# Altium schematic symbol library kalios.SchLib: 578 symbols (part 2 of 4)
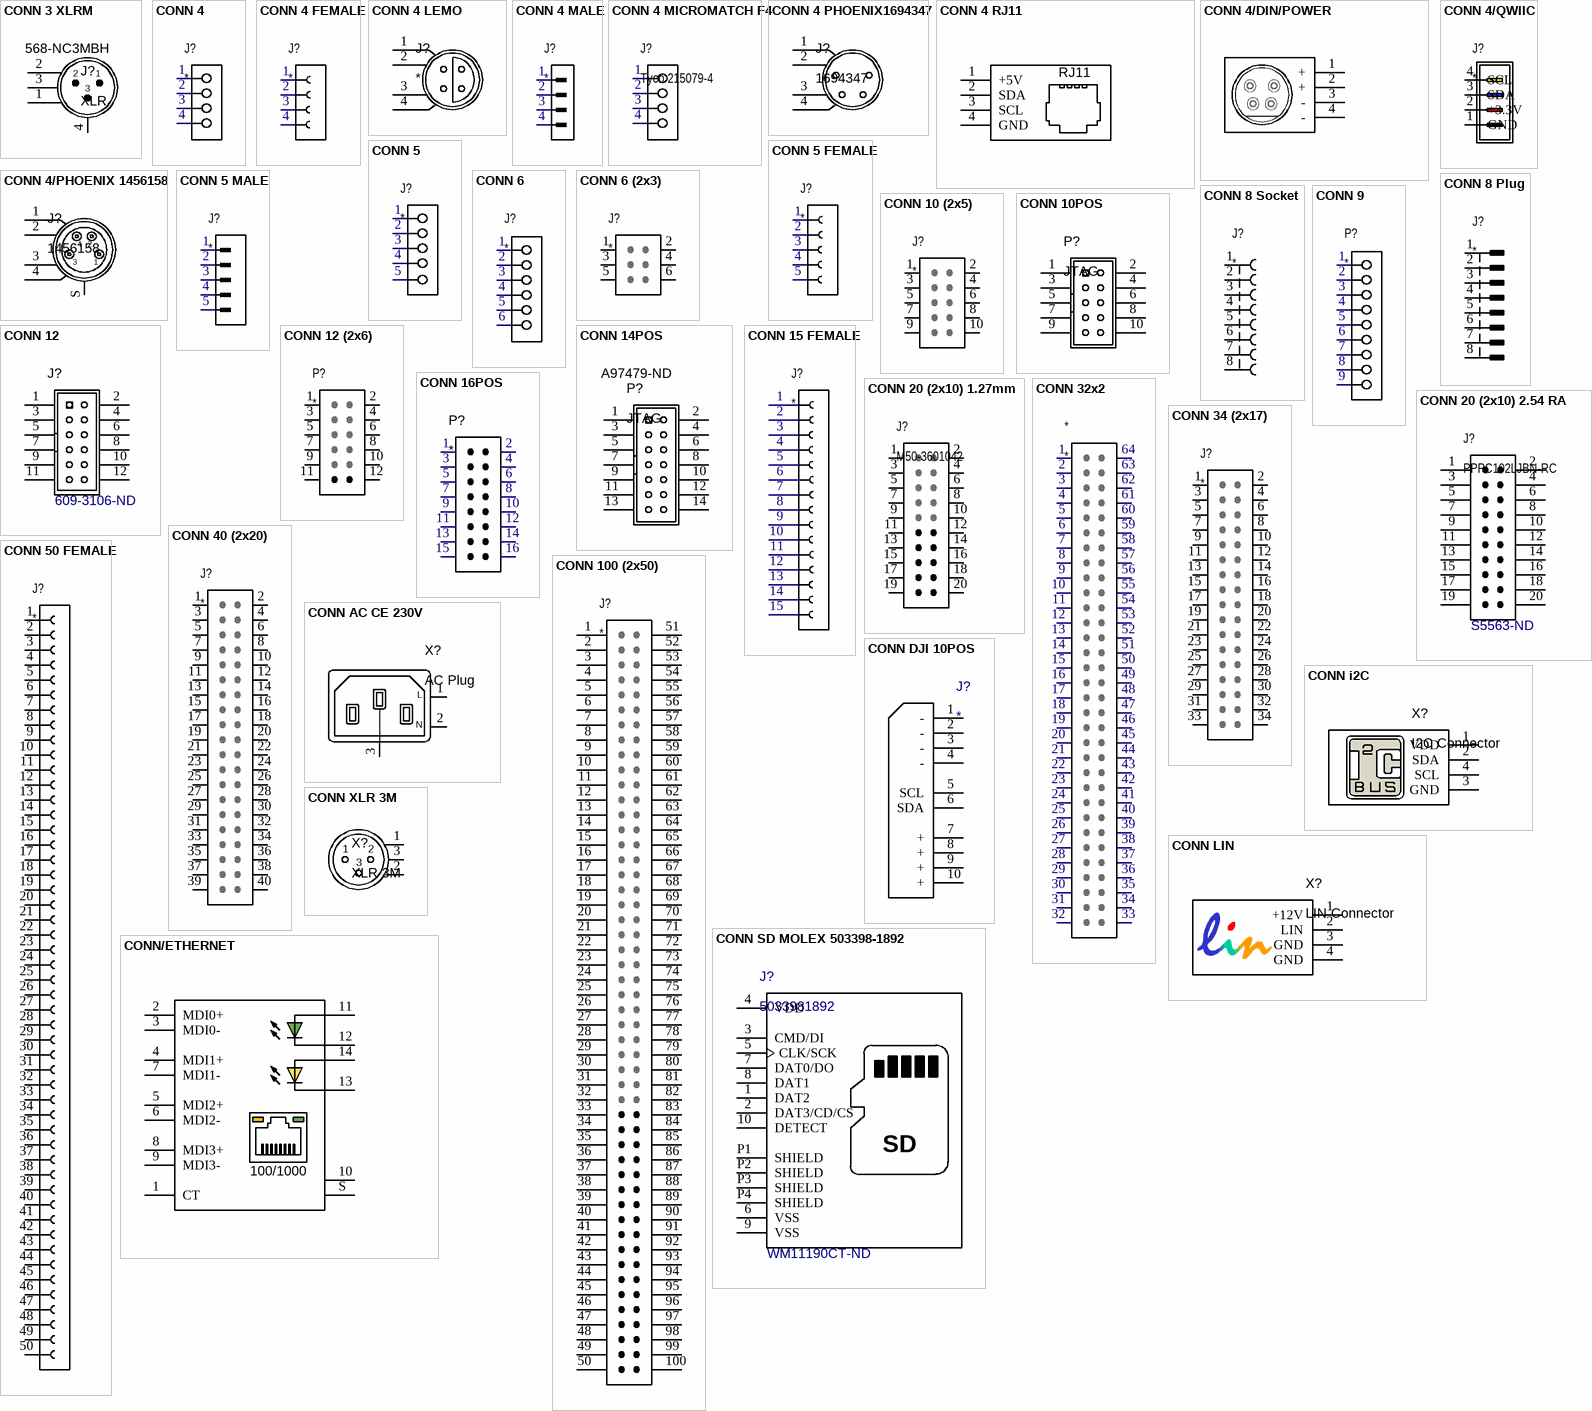
[diagram p25: symbols CONN 3 XLRM to CONN/ETHERNET]

## CONN 50 FEMALE
designator J?
pins: 1, 2, 3, 4, 5, 6, 7, 8, 9, 10, 11, 12, 13, 14, 15, 16, 17, 18, 19, 20, 21, 22, 23, 24, 25, 26, 27, 28, 29, 30, 31, 32, 33, 34, 35, 36, 37, 38, 39, 40, 41, 42, 43, 44, 45, 46, 47, 48, 49, 50

## CONN 100 (2x50)
designator J?
pins: 1, 2, 3, 4, 5, 6, 7, 8, 9, 10, 11, 12, 13, 14, 15, 16, 17, 18, 19, 20, 21, 22, 23, 24, 25, 26, 27, 28, 29, 30, 31, 32, 33, 34, 35, 36, 37, 38, 39, 40, 41, 42, 43, 44, 45, 46, 47, 48, 49, 50, 51, 52, 53, 54, 55, 56, 57, 58, 59, 60, 61, 62, 63, 64, 65, 66, 67, 68, 69, 70, 71, 72, 73, 74, 75, 76, 77, 78, 79, 80, 81, 82, 83, 84, 85, 86, 87, 88, 89, 90, 91, 92, 93, 94, 95, 96, 97, 98, 99, 100
1 alternate drawing of the same symbol

## CONN AC CE 230V
designator X?, comment AC Plug
pins: 1 L, 2 N, 3 GND

## CONN DJI 10POS
designator J?
pins: 1 -, 2 -, 3 -, 4 -, 5 SCL, 6 SDA, 7 +, 8 +, 9 +, 10 +

## CONN i2C
designator X?, comment I2C Connector
footprint TYCO/215079-4
pins: 1 VDD, 2 SDA, 3 GND, 4 SCL

## CONN LIN
designator X?, comment LIN Connector
footprint TYCO/5520250-3
pins: 1 +12V, 2 LIN, 3 GND, 4 GND

## CONN SD MOLEX 503398-1892
designator J?, comment 5033981892  Supplier Part Number 1: WM11190CT-ND
Supplier 1: Digi-Key
footprint MOLEX_503398-1892
pins: 1 DAT2, 2 DAT3/CD/CS, 3 CMD/DI, 4 VDD (power), 5 CLK/SCK, 6 VSS (power), 7 DAT0/DO, 8 DAT1, 9 VSS (power), 10 DETECT, P1 SHIELD, P2 SHIELD, P3 SHIELD, P4 SHIELD
text: SD

## CONN XLR 3M
designator X?, comment XLR 3M
footprint XLR
pins: 1, 2, 3

## CONN/ETHERNET
designator J?
Supplier 1: Digi-Key
footprint TE/1-406541-1
pins: 1 CT, 2 MDI0+, 3 MDI0-, 4 MDI1+, 5 MDI2+, 6 MDI2-, 7 MDI1-, 8 MDI3+, 9 MDI3-, 10 CHS GND, 11 LED_GREEN1, 12 LED_GREEN2, 13 LED_YELLOW2, 14 LED_YELLOW1, S
text: 100/1000

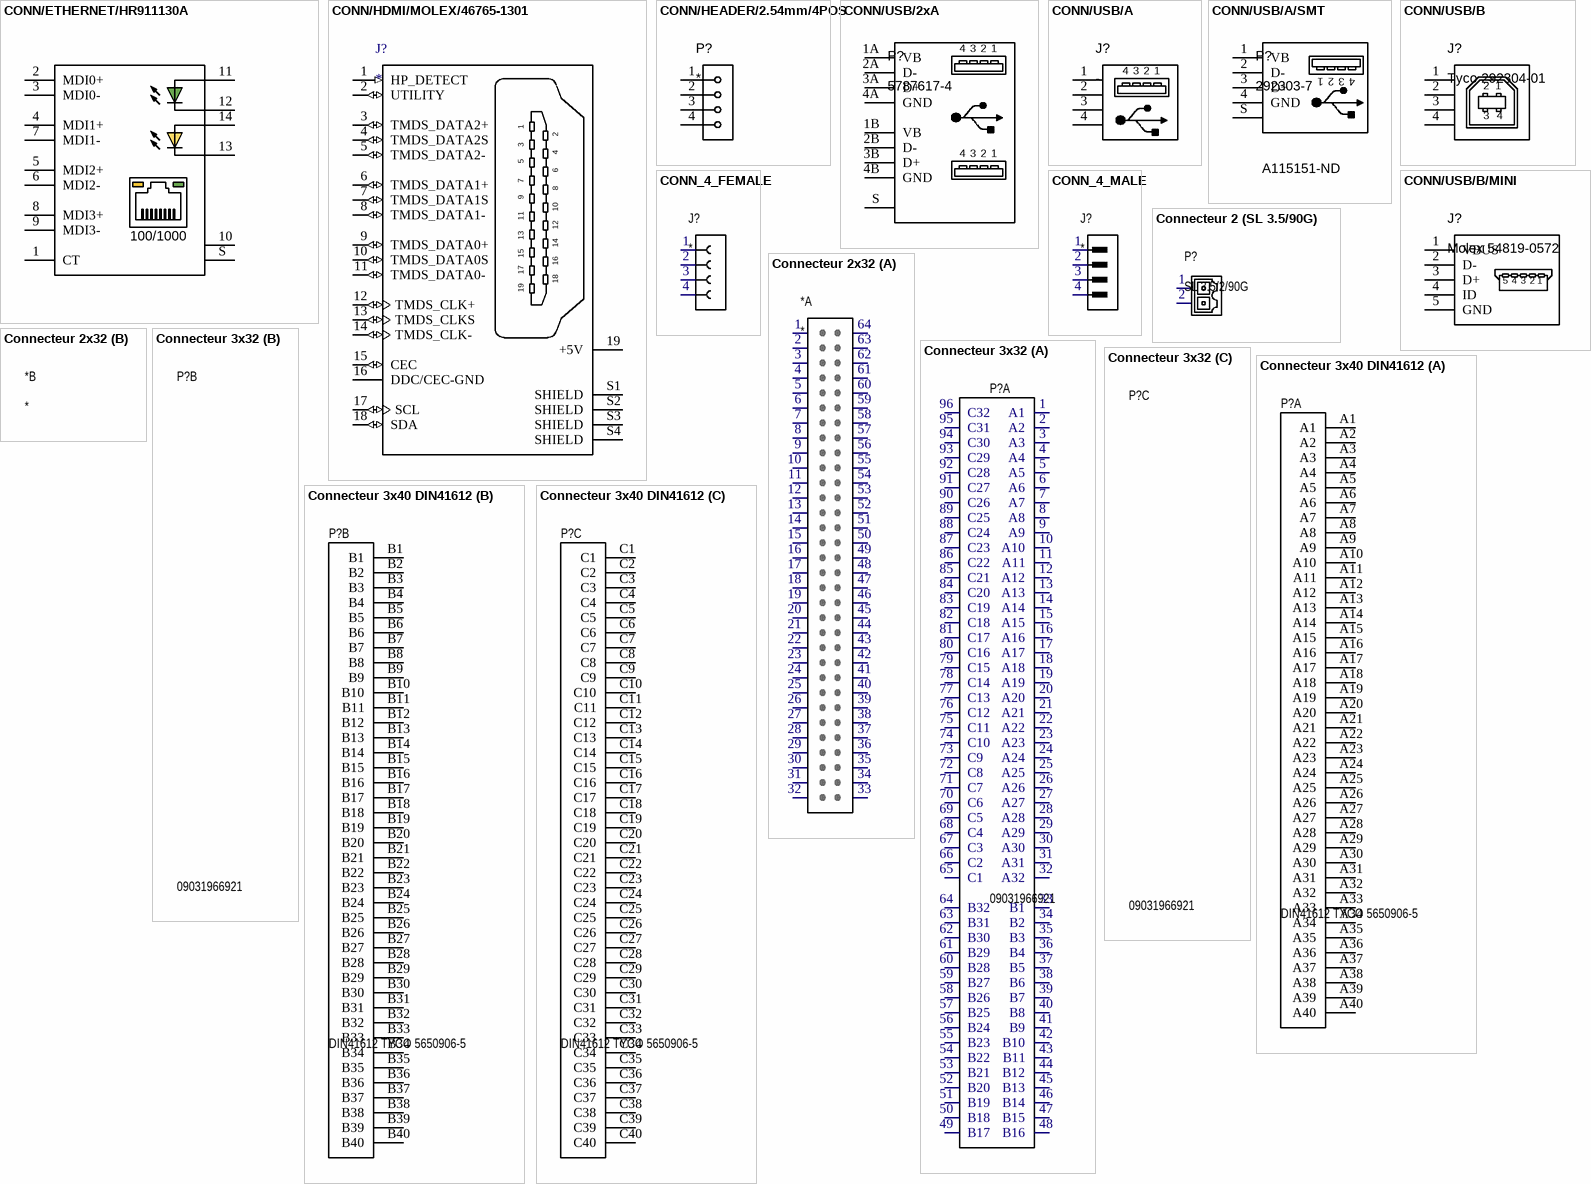
[diagram p6: symbols CONN/ETHERNET/HR911130A to Connecteur 3x40 DIN41612]

## CONN/ETHERNET/HR911130A
designator J?, comment HR911130A
footprint CONN/ETHERNET/HR911130A
pins: 1 CT, 2 MDI0+, 3 MDI0-, 4 MDI1+, 5 MDI2+, 6 MDI2-, 7 MDI1-, 8 MDI3+, 9 MDI3-, 10 CHS GND, 11 LED_GREEN1, 12 LED_GREEN2, 13 LED_YELLOW2, 14 LED_YELLOW1, S
text: 100/1000

## CONN/HDMI/MOLEX/46765-1301
designator J?
Conn Micro HDMI M 19 POS 0.4mm Solder RA SMD 19 Terminal 1 Port Embossed T/R; MP: 46765-1301; Package: None; Price: None; Value: *; Availability: Unavailable
footprint MOLEX_46765-1301
pins: 1 HP_DETECT (in), 2 UTILITY (io), 3 TMDS_DATA2+ (io), 4 TMDS_DATA2S (io), 5 TMDS_DATA2- (io), 6 TMDS_DATA1+ (io), 7 TMDS_DATA1S (io), 8 TMDS_DATA1- (io), 9 TMDS_DATA0+ (io), 10 TMDS_DATA0S (io), 11 TMDS_DATA0- (io), 12 TMDS_CLK+ (io), 13 TMDS_CLKS (io), 14 TMDS_CLK- (io), 15 CEC (io), 16 DDC/CEC-GND, 17 SCL (io), 18 SDA (io), 19 +5V (power), S1 SHIELD, S2 SHIELD, S3 SHIELD, S4 SHIELD

## CONN/HEADER/2.54mm/4POS
designator P?
footprint CONN/HEADER/2.54mm/4POS
pins: 1, 2, 3, 4

## CONN/USB/2xA
designator P?, comment 5787617-4
CONN RCPT USB 8POS STACK T/H
footprint TE/5787617-4 (USB DUAL)
pins: 1A VB, 1B VB, 2A D-, 2B D-, 3A D+, 3B D+, 4A GND, 4B GND, S GND
text: 4; 3; 2; 1

## CONN/USB/A
designator J?, comment -
Connector USB Type A
footprint TYCO/292304-01 (Footprint not found)
pins: 1, 2, 3, 4

## CONN/USB/A/SMT
designator P?, comment 292303-7  Supplier Part Number 1: A115151-ND
CONN RCPT USB TYPE A SMT R/A; Supplier 1: Digi-Key
footprint TE/292303-7 (CONN RCPT USB TYPE A SMT R/A)
pins: 1 VB, 2 D-, 3 D+, 4 GND, S GND
1 alternate drawing of the same symbol

## CONN/USB/B
designator J?, comment Tyco 292304-01
Connector USB Type B
footprint TYCO/292304-01 (Footprint not found)
pins: 1, 2, 3, 4

## CONN/USB/B/MINI
designator J?, comment Molex 54819-0572
CONN RECEPT MINIUSB R/A 5POS SMD
footprint MOLEX/54819-0572 (CONN RECEPT MINIUSB R/A 5POS SMD)
pins: 1 VBUS, 2 D-, 3 D+, 4 ID, 5 GND

## CONN_4_FEMALE
designator J?
pins: 1, 2, 3, 4

## CONN_4_MALE
designator J?
pins: 1, 2, 3, 4

## Connecteur 2 (SL 3.5/90G)
designator P?, comment SL 3.5/2/90G
footprint WEIDMULLER/SL_3.5/2/90G
pins: 1, 2

## Connecteur 2x32
designator *
part A pins: 1, 2, 3, 4, 5, 6, 7, 8, 9, 10, 11, 12, 13, 14, 15, 16, 17, 18, 19, 20, 21, 22, 23, 24, 25, 26, 27, 28, 29, 30, 31, 32, 33, 34, 35, 36, 37, 38, 39, 40, 41, 42, 43, 44, 45, 46, 47, 48, 49, 50, 51, 52, 53, 54, 55, 56, 57, 58, 59, 60, 61, 62, 63, 64
1 alternate drawing of the same symbol

## Connecteur 3x32
designator P?, comment 09031966921
part A pins: 1 A1, 2 A2, 3 A3, 4 A4, 5 A5, 6 A6, 7 A7, 8 A8, 9 A9, 10 A10, 11 A11, 12 A12, 13 A13, 14 A14, 15 A15, 16 A16, 17 A17, 18 A18, 19 A19, 20 A20, 21 A21, 22 A22, 23 A23, 24 A24, 25 A25, 26 A26, 27 A27, 28 A28, 29 A29, 30 A30, 31 A31, 32 A32, 33 B1, 34 B2, 35 B3, 36 B4, 37 B5, 38 B6, 39 B7, 40 B8, 41 B9, 42 B10, 43 B11, 44 B12, 45 B13, 46 B14, 47 B15, 48 B16, 49 B17, 50 B18, 51 B19, 52 B20, 53 B21, 54 B22, 55 B23, 56 B24, 57 B25, 58 B26, 59 B27, 60 B28, 61 B29, 62 B30, 63 B31, 64 B32, 65 C1, 66 C2, 67 C3, 68 C4, 69 C5, 70 C6, 71 C7, 72 C8, 73 C9, 74 C10, 75 C11, 76 C12, 77 C13, 78 C14, 79 C15, 80 C16, 81 C17, 82 C18, 83 C19, 84 C20, 85 C21, 86 C22, 87 C23, 88 C24, 89 C25, 90 C26, 91 C27, 92 C28, 93 C29, 94 C30, 95 C31, 96 C32
1 alternate drawing of the same symbol

## Connecteur 3x40 DIN41612
designator P?, comment DIN41612 TYCO 5650906-5
footprint DIN41612/TYCO/5650906-5 (Footprint not found)
part A pins: A1, A2, A3, A4, A5, A6, A7, A8, A9, A10, A11, A12, A13, A14, A15, A16, A17, A18, A19, A20, A21, A22, A23, A24, A25, A26, A27, A28, A29, A30, A31, A32, A33, A34, A35, A36, A37, A38, A39, A40
part B pins: B1, B2, B3, B4, B5, B6, B7, B8, B9, B10, B11, B12, B13, B14, B15, B16, B17, B18, B19, B20, B21, B22, B23, B24, B25, B26, B27, B28, B29, B30, B31, B32, B33, B34, B35, B36, B37, B38, B39, B40
part C pins: C1, C2, C3, C4, C5, C6, C7, C8, C9, C10, C11, C12, C13, C14, C15, C16, C17, C18, C19, C20, C21, C22, C23, C24, C25, C26, C27, C28, C29, C30, C31, C32, C33, C34, C35, C36, C37, C38, C39, C40

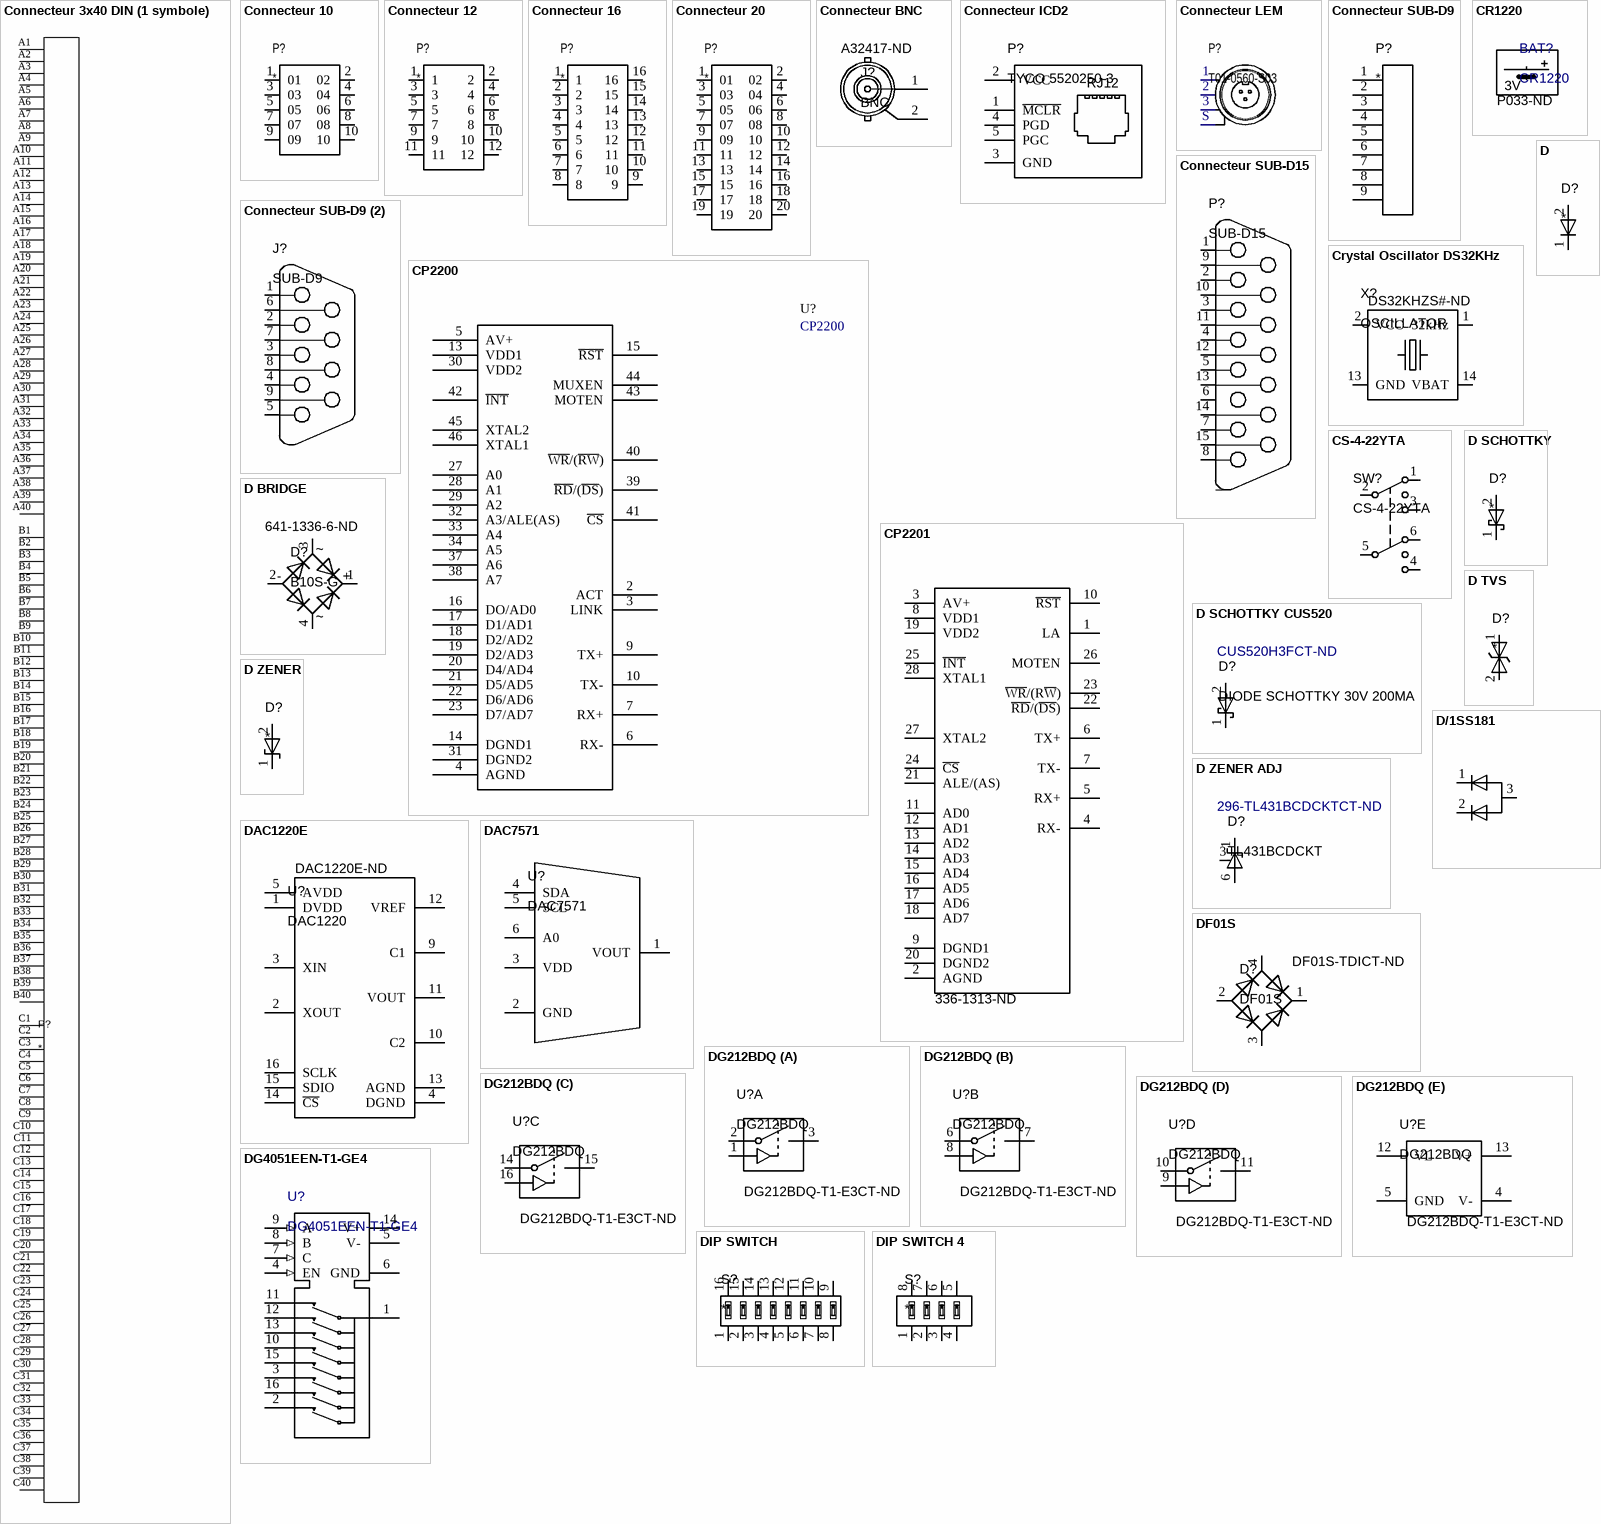
[diagram p7: symbols Connecteur 3x40 DIN (1 symbole) to DIP SWITCH 4]

## Connecteur 3x40 DIN (1 symbole)
designator P?
footprint DIN41612/TYCO/5650906-5
pins: A1, A2, A3, A4, A5, A6, A7, A8, A9, A10, A11, A12, A13, A14, A15, A16, A17, A18, A19, A20, A21, A22, A23, A24, A25, A26, A27, A28, A29, A30, A31, A32, A33, A34, A35, A36, A37, A38, A39, A40, B1, B2, B3, B4, B5, B6, B7, B8, B9, B10, B11, B12, B13, B14, B15, B16, B17, B18, B19, B20, B21, B22, B23, B24, B25, B26, B27, B28, B29, B30, B31, B32, B33, B34, B35, B36, B37, B38, B39, B40, C1, C2, C3, C4, C5, C6, C7, C8, C9, C10, C11, C12, C13, C14, C15, C16, C17, C18, C19, C20, C21, C22, C23, C24, C25, C26, C27, C28, C29, C30, C31, C32, C33, C34, C35, C36, C37, C38, C39, C40

## Connecteur 10
designator P?
pins: 1 01, 2 02, 3 03, 4 04, 5 05, 6 06, 7 07, 8 08, 9 09, 10

## Connecteur 12
designator P?
pins: 1, 2, 3, 4, 5, 6, 7, 8, 9, 10, 11, 12

## Connecteur 16
designator P?
pins: 1, 2, 3, 4, 5, 6, 7, 8, 9, 10, 11, 12, 13, 14, 15, 16

## Connecteur 20
designator P?
pins: 1 01, 2 02, 3 03, 4 04, 5 05, 6 06, 7 07, 8 08, 9 09, 10, 11, 12, 13, 14, 15, 16, 17, 18, 19, 20

## Connecteur BNC
designator J?, comment BNC  Supplier Part Number 1: A32417-ND
Supplier 1: Digi-Key
footprint TYCO/5413515-8
pins: 1, 2

## Connecteur ICD2
designator P?, comment TYCO 5520250-3
Connector ICD2
footprint TYCO/5520250-3
pins: 1 ~{MCLR}, 2 VCC, 3 GND, 4 PGD, 5 PGC
text: RJ12

## Connecteur LEM
designator P?, comment T01-0560-S03
Supplier 1: Farnell
footprint Connector_LEM
pins: 1, 2, 3, S SHIELD

## Connecteur SUB-D9
designator P?
pins: 1, 2, 3, 4, 5, 6, 7, 8, 9

## Connecteur SUB-D9 (2)
designator J?, comment SUB-D9
pins: 1, 2, 3, 4, 5, 6, 7, 8, 9

## Connecteur SUB-D15
designator P?, comment SUB-D15
pins: 1, 2, 3, 4, 5, 6, 7, 8, 9, 10, 11, 12, 13, 14, 15

## CP2200
designator U?
pins: 2 ACT, 3 LINK, 4 AGND, 5 AV+, 6 RX-, 7 RX+, 9 TX+, 10 TX-, 13 VDD1, 14 DGND1, 15 ~{RST}, 16 DO/AD0, 17 D1/AD1, 18 D2/AD2, 19 D2/AD3, 20 D4/AD4, 21 D5/AD5, 22 D6/AD6, 23 D7/AD7, 27 A0, 28 A1, 29 A2, 30 VDD2, 31 DGND2, 32 A3/ALE(AS), 33 A4, 34 A5, 37 A6, 38 A7, 39 ~{RD}/(~{DS}), 40 ~{WR}/(~{RW}), 41 ~{CS}, 42 ~{INT}, 43 MOTEN, 44 MUXEN, 45 XTAL2, 46 XTAL1

## CP2201
designator U?, comment CP2201-GM  Supplier Part Number 2: 336-1313-ND
IC ETH CTRLR SNGL-CHIP 28QFN; Supplier 1: Digi-Key; Supplier 2: Digi-Key
pins: 1 LA, 2 AGND, 3 AV+, 4 RX-, 5 RX+, 6 TX+, 7 TX-, 8 VDD1, 9 DGND1, 10 ~{RST}, 11 AD0, 12 AD1, 13 AD2, 14 AD3, 15 AD4, 16 AD5, 17 AD6, 18 AD7, 19 VDD2, 20 DGND2, 21 ALE/(AS), 22 ~{RD}/(~{DS}), 23 ~{WR}/(R~{W}), 24 ~{CS}, 25 ~{INT}, 26 MOTEN, 27 XTAL2, 28 XTAL1

## CR1220
designator BAT?  Supplier Part Number 1: P033-ND  (mechanical)
Lithum battery (LiCB) / 3V / 40mAh / 12.5 mm / 0.77 g; Supplier 1: Digi-Key
text: 3V

## Crystal Oscillator DS32KHz
designator X?, comment OSCILLATOR  Supplier Part Number 1: DS32KHZS#-ND
Supplier 1: Digi-Key
pins: 1 32kHz, 2 VCC, 13 GND, 14 VBAT

## CS-4-22YTA
designator SW?
Dip Switch DPDT 2 Position Surface Mount Rotary for Tool Actuator 100mA 16VDC; Supplier 1: Digi-Key; Supplier Part Number 1: 563-1039-1-ND
pins: 1 2A, 2 CA, 3 1A, 4 2B, 5 CB, 6 1B

## D
designator D?
pins: 1 K, 2 A

## D BRIDGE
designator D?, comment B10S-G  Supplier Part Number 1: 641-1336-6-ND
COMCHIP/B10S-G; Supplier 1: Digi-Key
footprint COMCHIP/B10S-G
pins: 1, 2, 3, 4
text: ~; -; +

## D SCHOTTKY
designator D?
pins: 1 K, 2 A

## D SCHOTTKY CUS520
designator D?, comment DIODE SCHOTTKY 30V 200MA  Supplier Part Number 1: CUS520H3FCT-ND
Diode Schottky 30V 200mA Surface Mount USC; Supplier 1: Digi-Key
footprint SOD323
pins: 1 CATHODE, 2 ANODE

## D TVS
designator D?
pins: 1, 2

## D ZENER
designator D?
pins: 1 K, 2 A

## D ZENER ADJ
designator D?, comment TL431BCDCKT  Supplier Part Number 1: 296-TL431BCDCKTCT-ND
IC VREF SHUNT ADJ 0.5% SC70-6; Supplier 1: Digi-Key; Value: TL431BCDCKT
footprint SC70-6 (SOT363, 6-Leads, Body 2x1.3mm, Pitch 0.65mm, Lead Span 2.1mm, IPC Low Density)
pins: 1 Cathode, 3 Ref, 6 Anode

## D/1SS181
designator D?, comment 1SS181
DIODE ARRAY 80V 100MA SC59; Supplier 1: Digi-Key
footprint SC59 (Footprint not found)
pins: 1, 2, 3

## DAC1220E
designator U?, comment DAC1220  Supplier Part Number 1: DAC1220E-ND
20-Bit, Low-Power igital-to-Analog Converter; Supplier 1: Digi-Key
footprint TI/DBQ016 (SSOP; 16 Leads; Body Width 3.9 mm; Pitch 0.635 mm)
pins: 1 DVDD, 2 XOUT, 3 XIN, 4 DGND, 5 AVDD, 9 C1, 10 C2, 11 VOUT, 12 VREF, 13 AGND, 14 ~{CS}, 15 SDIO, 16 SCLK

## DAC7571
designator U?
footprint SOT23-6 (Footprint not found)
pins: 1 VOUT, 2 GND, 3 VDD, 4 SDA, 5 SCL, 6 A0

## DF01S
designator D?  Supplier Part Number 1: DF01S-TDICT-ND
IC RECT BRIDGE 100V 1.5A 4-SMD; Supplier 1: Digi-Key
footprint DF01S
pins: 1, 2, 3, 4

## DG212BDQ
designator U?  Supplier Part Number 1: DG212BDQ-T1-E3CT-ND
Improved Quad CMOS Analog Switches; Supplier 1: Digi-Key
footprint PW016 (Shrink Small Outline; 16 Leads; Body Width 4.4 mm; Pitch 0.65 mm)
part A pins: 1 IN1, 2, 3
part B pins: 6, 7, 8 IN2
part C pins: 14, 15, 16 IN3
part D pins: 9 IN4, 10, 11
part E pins: 4 V-, 5 GND, 12 VL, 13 V+

## DG4051EEN-T1-GE4
designator U?
1 Circuit IC Switch 8:1 78Ohm 16-miniQFN (1.8x2.6); Supplier 1: Digi-Key; Supplier Part Number 1: DG4051EEN-T1-GE4CT-ND
pins: 1 X, 2 X7, 3 X5, 4 EN (in), 5 V- (power), 6 GND (power), 7 C (in), 8 B (in), 9 A (in), 10 X3, 11 X0, 12 X1, 13 X2, 14 V+ (power), 15 X4, 16 X6
1 alternate drawing of the same symbol

## DIP SWITCH
designator S?
pins: 1, 2, 3, 4, 5, 6, 7, 8, 9, 10, 11, 12, 13, 14, 15, 16

## DIP SWITCH 4
designator S?
pins: 1, 2, 3, 4, 5, 6, 7, 8

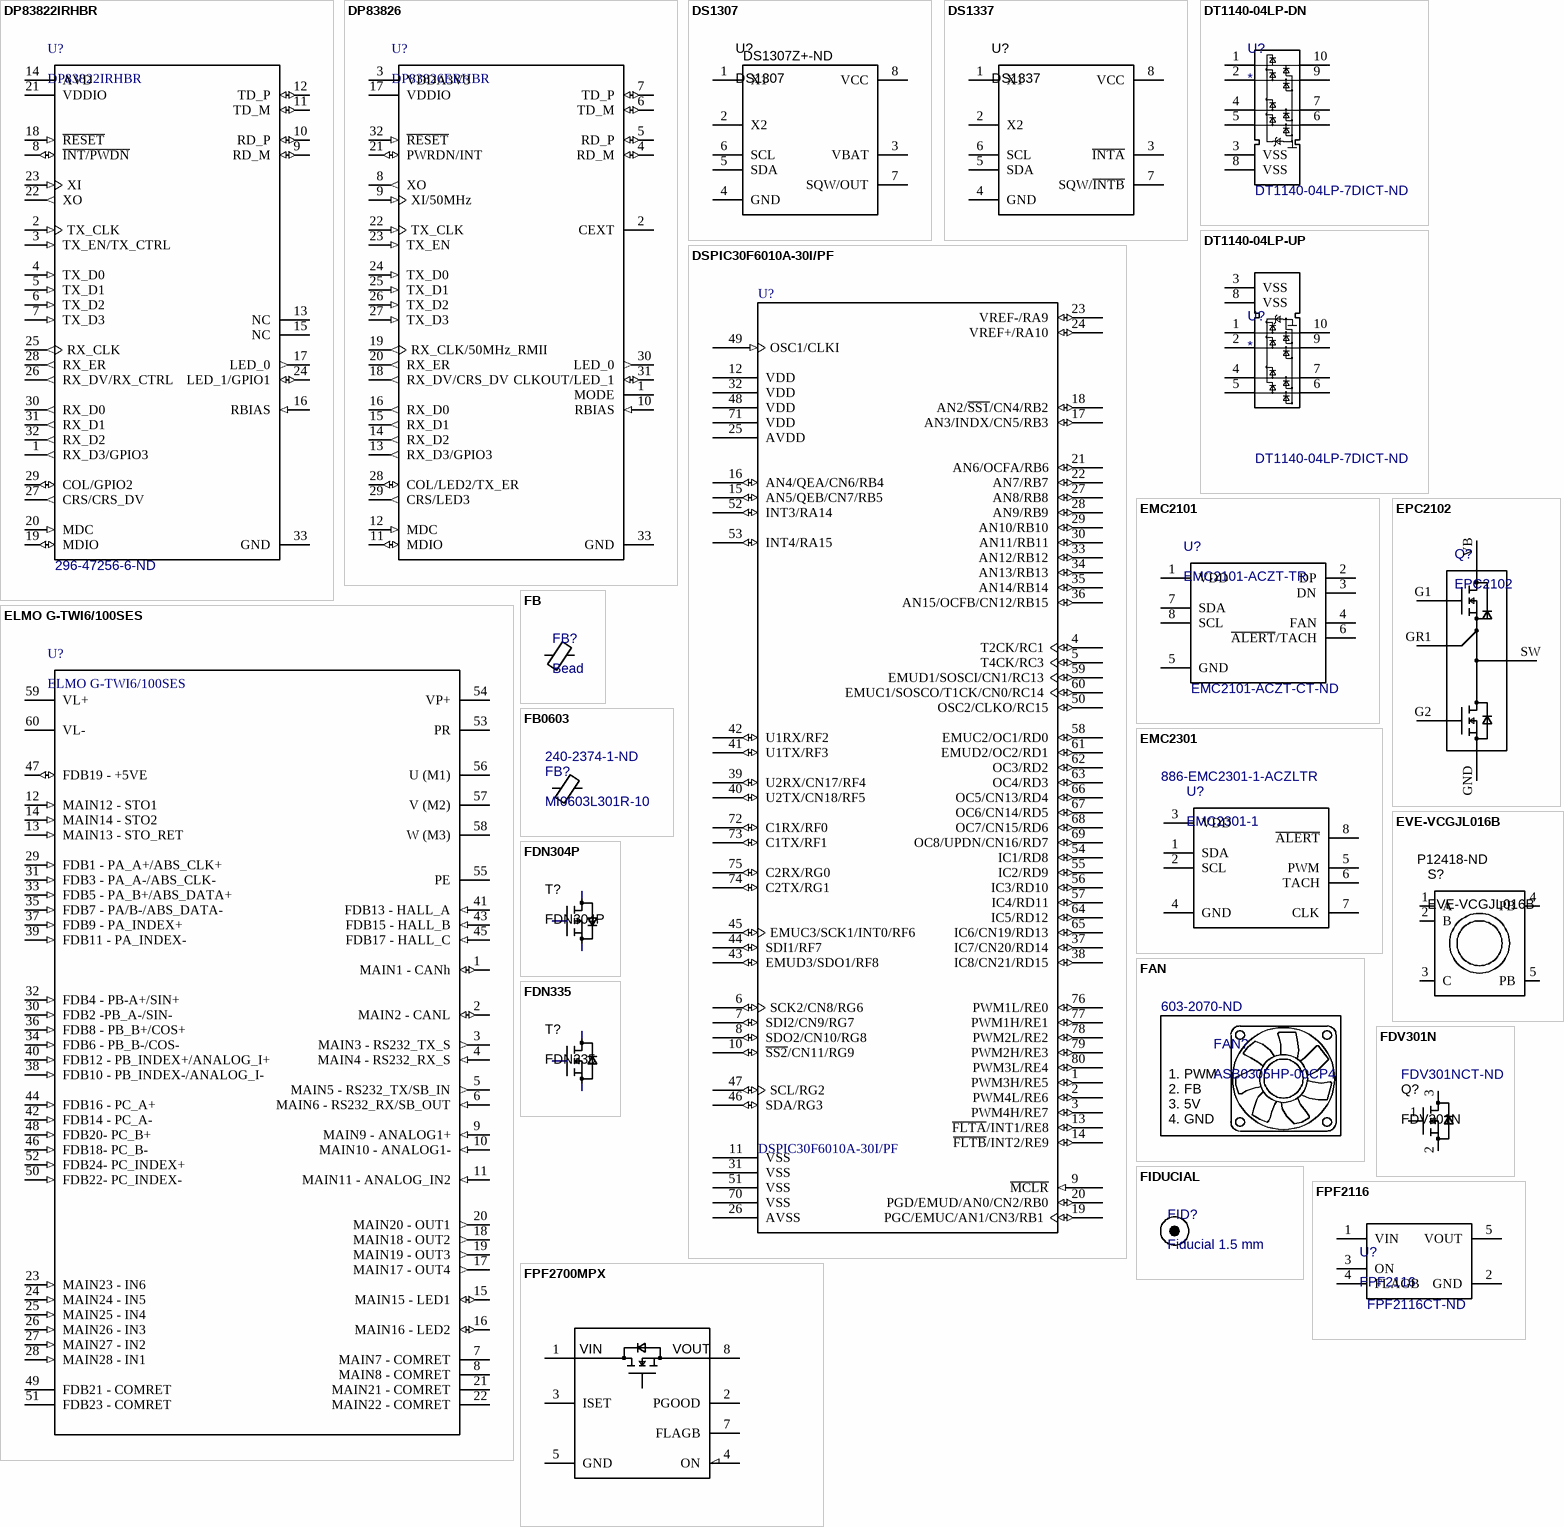
[diagram p8: symbols DP83822IRHBR to FPF2700MPX]

## DP83822IRHBR
designator U?  Supplier Part Number 1: 296-47256-6-ND
Ethernet Interface 32-VQFN (5x5); Price: None; Package: None; Availability: Unavailable; MP: DP83822IRHBR; Value: *; Supplier 1: Digi-Key
footprint IC_DP83822IRHBR
pins: 1 RX_D3/GPIO3 (out), 2 TX_CLK (in), 3 TX_EN/TX_CTRL (in), 4 TX_D0 (in), 5 TX_D1 (in), 6 TX_D2 (in), 7 TX_D3 (in), 8 ~{INT/PWDN} (io), 9 RD_M (io), 10 RD_P (io), 11 TD_M (io), 12 TD_P (io), 13 NC, 14 AVD (power), 15 NC, 16 RBIAS (in), 17 LED_0 (out), 18 ~{RESET} (in), 19 MDIO (io), 20 MDC (in), 21 VDDIO (power), 22 XO (out), 23 XI (in), 24 LED_1/GPIO1 (io), 25 RX_CLK (out), 26 RX_DV/RX_CTRL (out), 27 CRS/CRS_DV (out), 28 RX_ER (out), 29 COL/GPIO2 (io), 30 RX_D0 (out), 31 RX_D1 (out), 32 RX_D2 (out), 33 GND (power)

## DP83826
designator U?, comment DP83826ERHBR
Ethernet ICs Low latency 10/100-Mbps PHY with MII interface and enhanced mode 32-VQFN -40 to 105; MP: DP83822IRHBR; Price: None; Package: None; Availability: Unavailable; Value: *; Supplier 1: Mouser; Supplier Part Number 1: 595-DP83826ERHBR
footprint IC_DP83822IRHBR
pins: 1 MODE, 2 CEXT, 3 VDDA3V3 (power), 4 RD_M (io), 5 RD_P (io), 6 TD_M (io), 7 TD_P (io), 8 XO (out), 9 XI/50MHz (in), 10 RBIAS (in), 11 MDIO (io), 12 MDC (in), 13 RX_D3/GPIO3 (out), 14 RX_D2 (out), 15 RX_D1 (out), 16 RX_D0 (out), 17 VDDIO (power), 18 RX_DV/CRS_DV (out), 19 RX_CLK/50MHz_RMII (out), 20 RX_ER (out), 21 PWRDN/INT (io), 22 TX_CLK (in), 23 TX_EN (in), 24 TX_D0 (in), 25 TX_D1 (in), 26 TX_D2 (in), 27 TX_D3 (in), 28 COL/LED2/TX_ER (io), 29 CRS/LED3 (out), 30 LED_0 (out), 31 CLKOUT/LED_1 (io), 32 ~{RESET} (in), 33 GND (power)

## DS1307
designator U?  Supplier Part Number 1: DS1307Z+-ND
RTC; Supplier 1: Digi-Key
footprint SOIC8 (8-Pin Small Outline Integrated Circuit 1.27 mm Pitch, IPC Low Density)
pins: 1 X1, 2 X2, 3 VBAT, 4 GND, 5 SDA, 6 SCL, 7 SQW/OUT, 8 VCC

## DS1337
designator U?
RTC
pins: 1 X1, 2 X2, 3 ~{INTA}, 4 GND, 5 SDA, 6 SCL, 7 SQW/~{INTB}, 8 VCC

## DSPIC30F6010A-30I/PF
designator U?
High-Performance 16-bit Digital Signal Controller, 144 KB Flash, 8 KB SRAM, 4 KB EEPROM, 80-Pin TQFP, Industrial Temperature; Published: 29-Jan-2009; DatasheetVersion: revD, Jun-2008; PackageVersion: revAW, Oct-2008; PackageReference: TQFP-PF80; Publisher: Altium Limited; PackageDescription: 80-Lead Plastic Thin Quad Flatpack (PF) - 14x14x1mm Body, 2.00mm [TQFP]; Code_JEDEC: MS-026-AEC; ComponentLink1Description: Manufacturer Link; ComponentLink1URL: http://www.microchip.com; ComponentLink2Description: Datasheet; ComponentLink2URL: http://ww1.microchip.com/downloads/en/DeviceDoc/70150D.pdf; ComponentLink3Description: Packaging Specification; ComponentLink3URL: http://ww1.microchip.com/downloads/en/PackagingSpec/00049AW.pdf
footprint TQFP-PF80_N (Thin QFP, 80-Leads, Body 14 x 14mm, Pitch 0.65mm, IPC Medium Density)
footprint TQFP-PF80_L (Thin QFP, 80-Leads, Body 14 x 14mm, Pitch 0.65mm, IPC High Density)
footprint TQFP-PF80_M (Thin QFP, 80-Leads, Body 14 x 14mm, Pitch 0.65mm, IPC Low Density)
pins: 1 PWM3H/RE5 (io), 2 PWM4L/RE6 (io), 3 PWM4H/RE7 (io), 4 T2CK/RC1 (io), 5 T4CK/RC3 (io), 6 SCK2/CN8/RG6 (io), 7 SDI2/CN9/RG7 (io), 8 SDO2/CN10/RG8 (io), 9 ~{MCLR} (in), 10 ~{SS2}/CN11/RG9 (io), 11 VSS (power), 12 VDD (power), 13 ~{FLTA}/INT1/RE8 (io), 14 ~{FLTB}/INT2/RE9 (io), 15 AN5/QEB/CN7/RB5 (io), 16 AN4/QEA/CN6/RB4 (io), 17 AN3/INDX/CN5/RB3 (io), 18 AN2/~{SS1}/CN4/RB2 (io), 19 PGC/EMUC/AN1/CN3/RB1 (io), 20 PGD/EMUD/AN0/CN2/RB0 (io), 21 AN6/OCFA/RB6 (io), 22 AN7/RB7 (io), 23 VREF-/RA9 (io), 24 VREF+/RA10 (io), 25 AVDD (power), 26 AVSS (power), 27 AN8/RB8 (io), 28 AN9/RB9 (io), 29 AN10/RB10 (io), 30 AN11/RB11 (io), 31 VSS (power), 32 VDD (power), 33 AN12/RB12 (io), 34 AN13/RB13 (io), 35 AN14/RB14 (io), 36 AN15/OCFB/CN12/RB15 (io), 37 IC7/CN20/RD14 (io), 38 IC8/CN21/RD15 (io), 39 U2RX/CN17/RF4 (io), 40 U2TX/CN18/RF5 (io), 41 U1TX/RF3 (io), 42 U1RX/RF2 (io), 43 EMUD3/SDO1/RF8 (io), 44 SDI1/RF7 (io), 45 EMUC3/SCK1/INT0/RF6 (io), 46 SDA/RG3 (io), 47 SCL/RG2 (io), 48 VDD (power), 49 OSC1/CLKI (in), 50 OSC2/CLKO/RC15 (io), 51 VSS (power), 52 INT3/RA14 (io), 53 INT4/RA15 (io), 54 IC1/RD8 (io), 55 IC2/RD9 (io), 56 IC3/RD10 (io), 57 IC4/RD11 (io), 58 EMUC2/OC1/RD0 (io), 59 EMUD1/SOSCI/CN1/RC13 (io), 60 EMUC1/SOSCO/T1CK/CN0/RC14 (io), 61 EMUD2/OC2/RD1 (io), 62 OC3/RD2 (io), 63 OC4/RD3 (io), 64 IC5/RD12 (io), 65 IC6/CN19/RD13 (io), 66 OC5/CN13/RD4 (io), 67 OC6/CN14/RD5 (io), 68 OC7/CN15/RD6 (io), 69 OC8/UPDN/CN16/RD7 (io), 70 VSS (power), 71 VDD (power), 72 C1RX/RF0 (io), 73 C1TX/RF1 (io), 74 C2TX/RG1 (io), 75 C2RX/RG0 (io), 76 PWM1L/RE0 (io), 77 PWM1H/RE1 (io), 78 PWM2L/RE2 (io), 79 PWM2H/RE3 (io), 80 PWM3L/RE4 (io)

## DT1140-04LP-DN
designator U?  Supplier Part Number 1: DT1140-04LP-7DICT-ND
TVS DIODE 5.5VWM 10VC U-DFN2510; Supplier 1: Digi-Key
footprint SOT1165-1
pins: 1, 2, 3 VSS, 4, 5, 6, 7, 8 VSS, 9, 10

## DT1140-04LP-UP
designator U?  Supplier Part Number 1: DT1140-04LP-7DICT-ND
TVS DIODE 5.5VWM 10VC U-DFN2510; Supplier 1: Digi-Key
footprint SOT1165-1
pins: 1, 2, 3 VSS, 4, 5, 6, 7, 8 VSS, 9, 10

## ELMO G-TWI6/100SES
designator U?
Gold Twitter G-TWITTER 6A/100VDC CAN ENC VL95
footprint ELMO G-TWI (ELMO Gold Twitter Motion Contgrol (Bottom Side))
pins: 1 MAIN1 - CANh (io), 2 MAIN2 - CANL (io), 3 MAIN3 - RS232_TX_S (out), 4 MAIN4 - RS232_RX_S (in), 5 MAIN5 - RS232_TX/SB_IN (out), 6 MAIN6 - RS232_RX/SB_OUT (in), 7 MAIN7 - COMRET, 8 MAIN8 - COMRET, 9 MAIN9 - ANALOG1+ (in), 10 MAIN10 - ANALOG1- (in), 11 MAIN11 - ANALOG_IN2 (in), 12 MAIN12 - STO1 (in), 13 MAIN13 - STO_RET (in), 14 MAIN14 - STO2 (in), 15 MAIN15 - LED1 (io), 16 MAIN16 - LED2 (io), 17 MAIN17 - OUT4 (out), 18 MAIN18 - OUT2 (out), 19 MAIN19 - OUT3 (out), 20 MAIN20 - OUT1 (out), 21 MAIN21 - COMRET, 22 MAIN22 - COMRET, 23 MAIN23 - IN6 (in), 24 MAIN24 - IN5 (in), 25 MAIN25 - IN4 (in), 26 MAIN26 - IN3 (in), 27 MAIN27 - IN2 (in), 28 MAIN28 - IN1 (in), 29 FDB1 - PA_A+/ABS_CLK+ (in), 30 FDB2 -PB_A-/SIN- (in), 31 FDB3 - PA_A-/ABS_CLK- (in), 32 FDB4 - PB-A+/SIN+ (in), 33 FDB5 - PA_B+/ABS_DATA+ (in), 34 FDB6 - PB_B-/COS- (in), 35 FDB7 - PA/B-/ABS_DATA- (in), 36 FDB8 - PB_B+/COS+ (in), 37 FDB9 - PA_INDEX+ (in), 38 FDB10 - PB_INDEX-/ANALOG_I- (in), 39 FDB11 - PA_INDEX- (in), 40 FDB12 - PB_INDEX+/ANALOG_I+ (in), 41 FDB13 - HALL_A (in), 42 FDB14 - PC_A- (in), 43 FDB15 - HALL_B (in), 44 FDB16 - PC_A+ (in), 45 FDB17 - HALL_C (in), 46 FDB18- PC_B- (in), 47 FDB19 - +5VE (io), 48 FDB20- PC_B+ (in), 49 FDB21 - COMRET, 50 FDB22- PC_INDEX- (in), 51 FDB23 - COMRET, 52 FDB24- PC_INDEX+ (in), 53 PR, 54 VP+, 55 PE, 56 U (M1), 57 V (M2), 58 W (M3), 59 VL+, 60 VL-

## EMC2101
designator U?, comment EMC2101-ACZT-TR  Supplier Part Number 1: EMC2101-ACZT-CT-ND
Supplier 1: Digi-Key
footprint SOIC8 (8-Pin Small Outline Integrated Circuit 1.27 mm Pitch, IPC Low Density)
pins: 1 VDD, 2 DP, 3 DN, 4 FAN, 5 GND, 6 ~{ALERT}/TACH, 7 SDA, 8 SCL

## EMC2301
designator U?, comment EMC2301-1  Supplier Part Number 1: 886-EMC2301-1-ACZLTR
IC MOTOR DRIVER 3V-3.6V 8MSOP; Supplier 1: Mouser
footprint MSOP8
pins: 1 SDA, 2 SCL, 3 VDD, 4 GND, 5 PWM, 6 TACH, 7 CLK, 8 ~{ALERT}

## EPC2102
designator Q?
GAN TRANS SYMMETRICAL HALF BRIDGMosfet Array 2 N-Channel (Half Bridge) 60V 23A - Surface Mount Die; Supplier 1: Digi-Key; Supplier Part Number 1: 917-1182-1-ND
footprint EPC2102 (BGA, 75-Leads, Body 6.05x2.30mmx0.63mm, Pitch 0.40mm)
pins: G1, G2, GND, GR1, SW, VB B

## EVE-VCGJL016B
designator S?  Supplier Part Number 1: P12418-ND
Supplier 1: Digi-Key
footprint PANASONIC/EVEV
pins: 1 A, 2 B, 3 C, 4 PB, 5 PB

## FAN
designator FAN?, comment ASB0305HP-00CP4  Supplier Part Number 1: 603-2070-ND
Supplier 1: Digi-Key
text: 1. PWM; 2. FB; 3. 5V; 4. GND

## FB
designator FB?, comment Bead
footprint SM/L0603 (Chip Capacitor, Body 1.6x0.8mm, IPC Low Density)
pins: 1, 2

## FB0603
designator FB?, comment MI0603L301R-10  Supplier Part Number 1: 240-2374-1-ND
Supplier 1: Digi-Key
footprint SM/L0603 (Chip Capacitor, Body 1.6x0.8mm, IPC Low Density)
pins: 1, 2

## FDN304P
designator T?
MOSFET P SOT-23
footprint SOT23-3 (SOT23, 3-Leads, Body 3.0x2.6mm (max), Pitch 0.95mm, IPC Low Density)
pins: 1 G, 2 S, 3 D

## FDN335
designator T?
MOSFET N-CH 20V 1.7A SSOT3
footprint SOT23-3 (SOT23, 3-Leads, Body 3.0x2.6mm (max), Pitch 0.95mm, IPC Low Density)
pins: 1 G, 2 S, 3 D

## FDV301N
designator Q?  Supplier Part Number 1: FDV301NCT-ND
MOSFET N-CH 25V 220MA SOT23; Supplier 1: Digi-Key
footprint SOT23-3 (SOT23, 3-Leads, Body 3.0x2.6mm (max), Pitch 0.95mm, IPC Low Density)
pins: 1 VCC, 2 VCC, 3 VCC

## FIDUCIAL
designator FID?, comment Fiducial 1.5 mm  (mechanical)
footprint FIDUCIAL (Fiducial marker)

## FPF2116
designator U?  Supplier Part Number 1: FPF2116CT-ND
IC PWR SWITCH P-CHAN 1:1 SOT23-5 / Power Switch/Driver 1:1 P-Channel 200mA SOT-23-5; Supplier 1: Digi-Key
footprint SOT23-5 (SOT23, 5-Leads, Body 3.0x2.6mm (max), Pitch 0.95mm, IPC Low Density)
pins: 1 VIN (power), 2 GND (power), 3 ON, 4 FLAGB, 5 VOUT

## FPF2700MPX
designator U?, comment FPF2700
IC LOAD SWITCH CURR LIMIT 8-SOIC; Supplier 1: Digi-Key
footprint SOIC8 (8-Pin Small Outline Integrated Circuit 1.27 mm Pitch, IPC Low Density)
pins: 1 VIN, 2 PGOOD, 3 ISET, 4 ON, 5 GND, 7 FLAGB, 8 VOUT

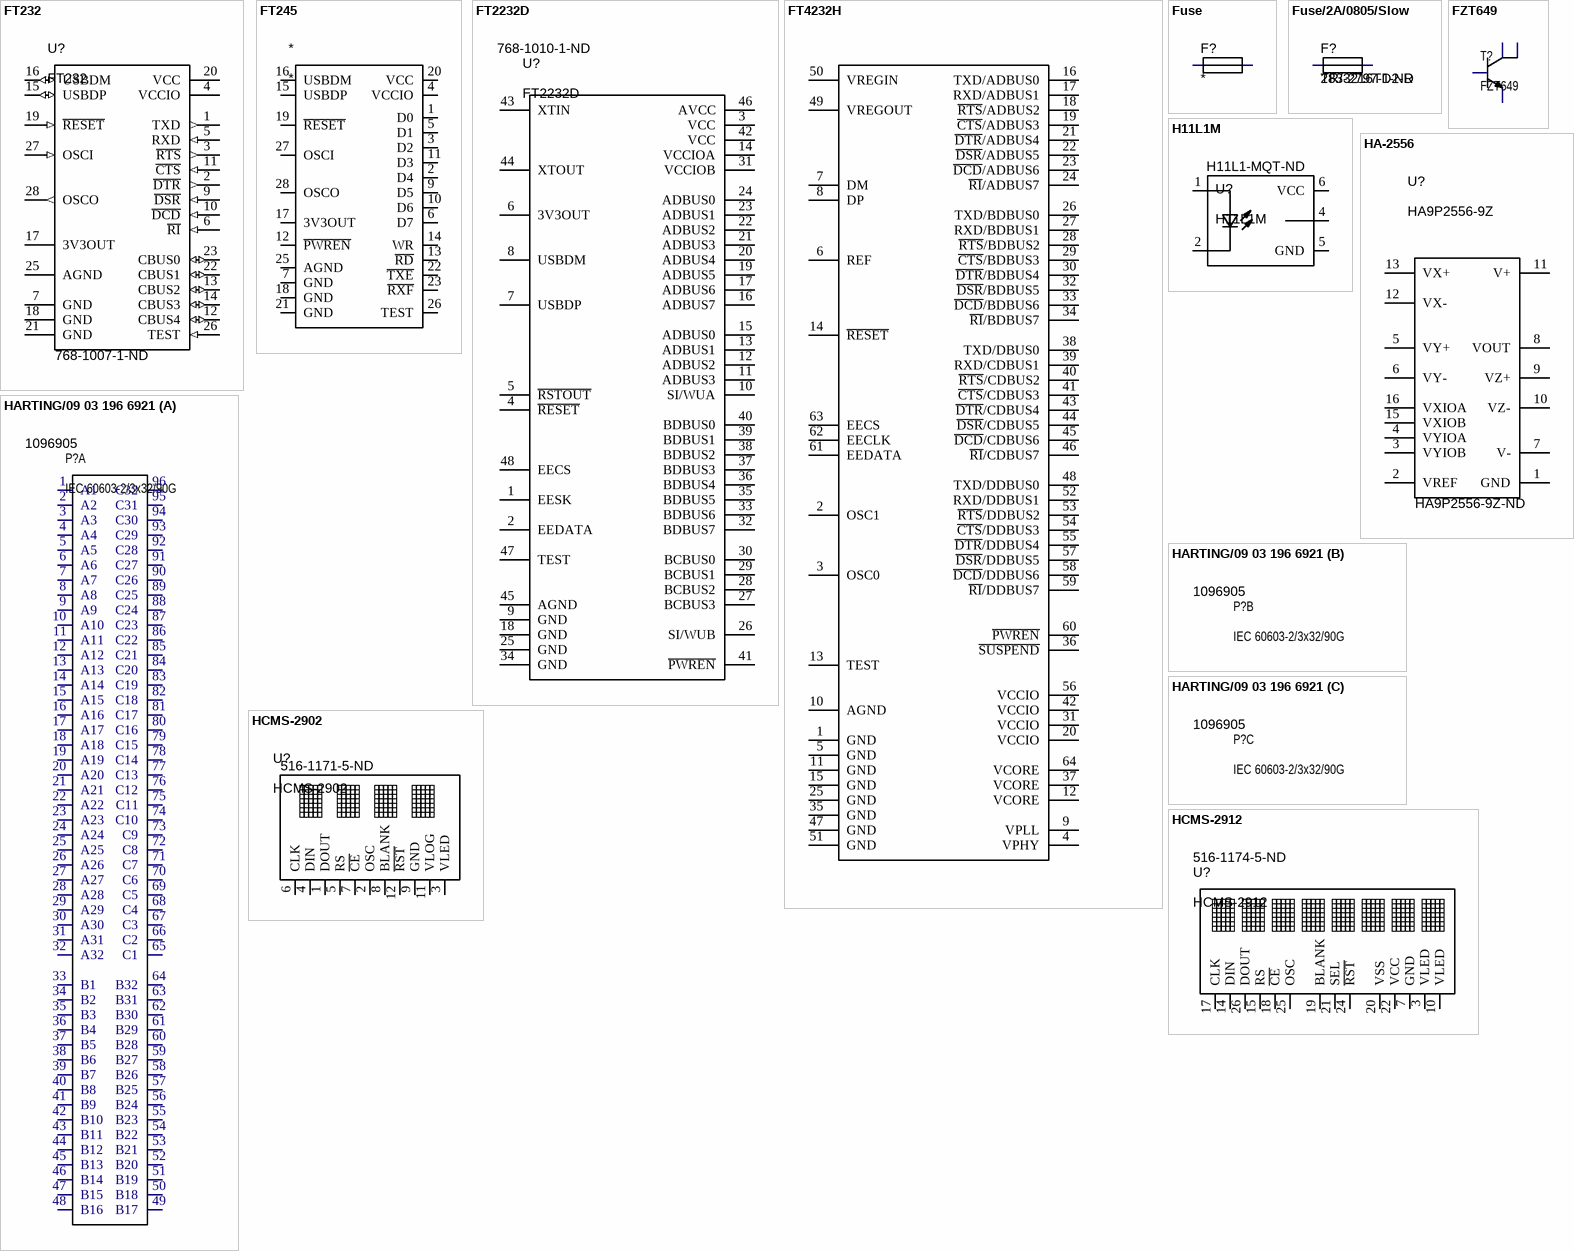
[diagram p9: symbols FT232 to HCMS-2912]

## FT232
designator U?  Supplier Part Number 1: 768-1007-1-ND
Supplier 1: Digi-Key
footprint SSOP28
pins: 1 TXD (out), 2 ~{DTR} (out), 3 ~{RTS} (out), 4 VCCIO (power), 5 RXD (in), 6 ~{RI} (in), 7 GND, 9 ~{DSR} (in), 10 ~{DCD} (in), 11 ~{CTS} (in), 12 CBUS4 (io), 13 CBUS2 (io), 14 CBUS3 (io), 15 USBDP (io), 16 USBDM (io), 17 3V3OUT, 18 GND, 19 ~{RESET} (in), 20 VCC (power), 21 GND, 22 CBUS1 (io), 23 CBUS0 (io), 25 AGND, 26 TEST (in), 27 OSCI (in), 28 OSCO (out)

## FT245
designator *
pins: 1 D0, 2 D4, 3 D2, 4 VCCIO, 5 D1, 6 D7, 7 GND, 9 D5, 10 D6, 11 D3, 12 ~{PWREN}, 13 ~{RD}, 14 WR, 15 USBDP, 16 USBDM, 17 3V3OUT, 18 GND, 19 ~{RESET}, 20 VCC, 21 GND, 22 ~{TXE}, 23 ~{RXF}, 25 AGND, 26 TEST, 27 OSCI, 28 OSCO

## FT2232D
designator U?  Supplier Part Number 1: 768-1010-1-ND
Supplier 1: Digi-Key
footprint LQFP48 (TSQFP, 48-Leads, Body 9.0x9.0mm (max), Pitch 0.50mm, IPC Medium Density)
pins: 1 EESK, 2 EEDATA, 3 VCC, 4 ~{RESET}, 5 ~{RSTOUT}, 6 3V3OUT, 7 USBDP, 8 USBDM, 9 GND, 10 SI/WUA, 11 ADBUS3, 12 ADBUS2, 13 ADBUS1, 14 VCCIOA, 15 ADBUS0, 16 ADBUS7, 17 ADBUS6, 18 GND, 19 ADBUS5, 20 ADBUS4, 21 ADBUS3, 22 ADBUS2, 23 ADBUS1, 24 ADBUS0, 25 GND, 26 SI/WUB, 27 BCBUS3, 28 BCBUS2, 29 BCBUS1, 30 BCBUS0, 31 VCCIOB, 32 BDBUS7, 33 BDBUS6, 34 GND, 35 BDBUS5, 36 BDBUS4, 37 BDBUS3, 38 BDBUS2, 39 BDBUS1, 40 BDBUS0, 41 ~{PWREN}, 42 VCC, 43 XTIN, 44 XTOUT, 45 AGND, 46 AVCC, 47 TEST, 48 EECS

## FT4232H
designator U?  Supplier Part Number 2: 768-1026-6-ND
USB TO UART; Supplier 1: Digi-Key; Supplier 2: Digi-Key
pins: 1 GND, 2 OSC1, 3 OSC0, 4 VPHY, 5 GND, 6 REF, 7 DM, 8 DP, 9 VPLL, 10 AGND, 11 GND, 12 VCORE, 13 TEST, 14 ~{RESET}, 15 GND, 16 TXD/ADBUS0, 17 RXD/ADBUS1, 18 ~{RTS}/ADBUS2, 19 ~{CTS}/ADBUS3, 20 VCCIO, 21 ~{DTR}/ADBUS4, 22 ~{DSR}/ADBUS5, 23 ~{DCD}/ADBUS6, 24 ~{RI}/ADBUS7, 25 GND, 26 TXD/BDBUS0, 27 RXD/BDBUS1, 28 ~{RTS}/BDBUS2, 29 ~{CTS}/BDBUS3, 30 ~{DTR}/BDBUS4, 31 VCCIO, 32 ~{DSR}/BDBUS5, 33 ~{DCD}/BDBUS6, 34 ~{RI}/BDBUS7, 35 GND, 36 ~{SUSPEND}, 37 VCORE, 38 TXD/DBUS0, 39 RXD/CDBUS1, 40 ~{RTS}/CDBUS2, 41 ~{CTS}/CDBUS3, 42 VCCIO, 43 ~{DTR}/CDBUS4, 44 ~{DSR}/CDBUS5, 45 ~{DCD}/CDBUS6, 46 ~{RI}/CDBUS7, 47 GND, 48 TXD/DDBUS0, 49 VREGOUT, 50 VREGIN, 51 GND, 52 RXD/DDBUS1, 53 ~{RTS}/DDBUS2, 54 ~{CTS}/DDBUS3, 55 ~{DTR}/DDBUS4, 56 VCCIO, 57 ~{DSR}/DDBUS5, 58 ~{DCD}/DDBUS6, 59 ~{RI}/DDBUS7, 60 ~{PWREN}, 61 EEDATA, 62 EECLK, 63 EECS, 64 VCORE

## Fuse
designator F?
pins: 1, 2

## Fuse/2A/0805/Slow
designator F?, comment TR/3216TD2-R  Supplier Part Number 1: 283-2797-1-ND
Fuse 2A 32V; Supplier 1: Digi-Key
footprint SM/1206 (Chip Resistor, Body 3.2x1.6mm, IPC Low Density)
pins: 1, 2

## FZT649
designator T?
pins: 1, 2, 3, 4

## H11L1M
designator U?  Supplier Part Number 1: H11L1-MQT-ND
Supplier 1: Digi-Key
pins: 1 A, 2 C, 4 VO, 5 GND, 6 VCC

## HA-2556
designator U?, comment HA9P2556-9Z  Supplier Part Number 1: HA9P2556-9Z-ND
Supplier 1: Digi-Key
footprint SOIC16 (SOIC, 16-Leads, Body 10.0x4.0mm (max), Pitch 1.27mm, IPC Low Density)
pins: 1 GND, 2 VREF, 3 VYIOB, 4 VYIOA, 5 VY+, 6 VY-, 7 V-, 8 VOUT, 9 VZ+, 10 VZ-, 11 V+, 12 VX-, 13 VX+, 15 VXIOB, 16 VXIOA

## HARTING/09 03 196 6921
designator P?, comment IEC 60603-2/3x32/90G  Supplier Part Number 1: 1096905
Supplier 1: Farnell
footprint HARTING/09 03 196 6921
part A pins: 1 A1, 2 A2, 3 A3, 4 A4, 5 A5, 6 A6, 7 A7, 8 A8, 9 A9, 10 A10, 11 A11, 12 A12, 13 A13, 14 A14, 15 A15, 16 A16, 17 A17, 18 A18, 19 A19, 20 A20, 21 A21, 22 A22, 23 A23, 24 A24, 25 A25, 26 A26, 27 A27, 28 A28, 29 A29, 30 A30, 31 A31, 32 A32, 33 B1, 34 B2, 35 B3, 36 B4, 37 B5, 38 B6, 39 B7, 40 B8, 41 B9, 42 B10, 43 B11, 44 B12, 45 B13, 46 B14, 47 B15, 48 B16, 49 B17, 50 B18, 51 B19, 52 B20, 53 B21, 54 B22, 55 B23, 56 B24, 57 B25, 58 B26, 59 B27, 60 B28, 61 B29, 62 B30, 63 B31, 64 B32, 65 C1, 66 C2, 67 C3, 68 C4, 69 C5, 70 C6, 71 C7, 72 C8, 73 C9, 74 C10, 75 C11, 76 C12, 77 C13, 78 C14, 79 C15, 80 C16, 81 C17, 82 C18, 83 C19, 84 C20, 85 C21, 86 C22, 87 C23, 88 C24, 89 C25, 90 C26, 91 C27, 92 C28, 93 C29, 94 C30, 95 C31, 96 C32
1 alternate drawing of the same symbol

## HCMS-2902
designator U?  Supplier Part Number 1: 516-1171-5-ND
Supplier 1: Digi-Key
footprint HCMS-291x
pins: 1 DOUT, 2 OSC, 3 VLED, 4 DIN, 5 RS, 6 CLK, 7 ~{CE}, 8 BLANK, 9 GND, 11 VLOG, 12 ~{RST}

## HCMS-2912
designator U?  Supplier Part Number 1: 516-1174-5-ND
Supplier 1: Digi-Key
footprint HCMS-291x
pins: 3 VLED, 7 GND, 10 VLED, 14 DIN, 15 RS, 17 CLK, 18 ~{CE}, 19 BLANK, 20 VSS, 21 SEL, 22 VCC, 24 ~{RST}, 25 OSC, 26 DOUT

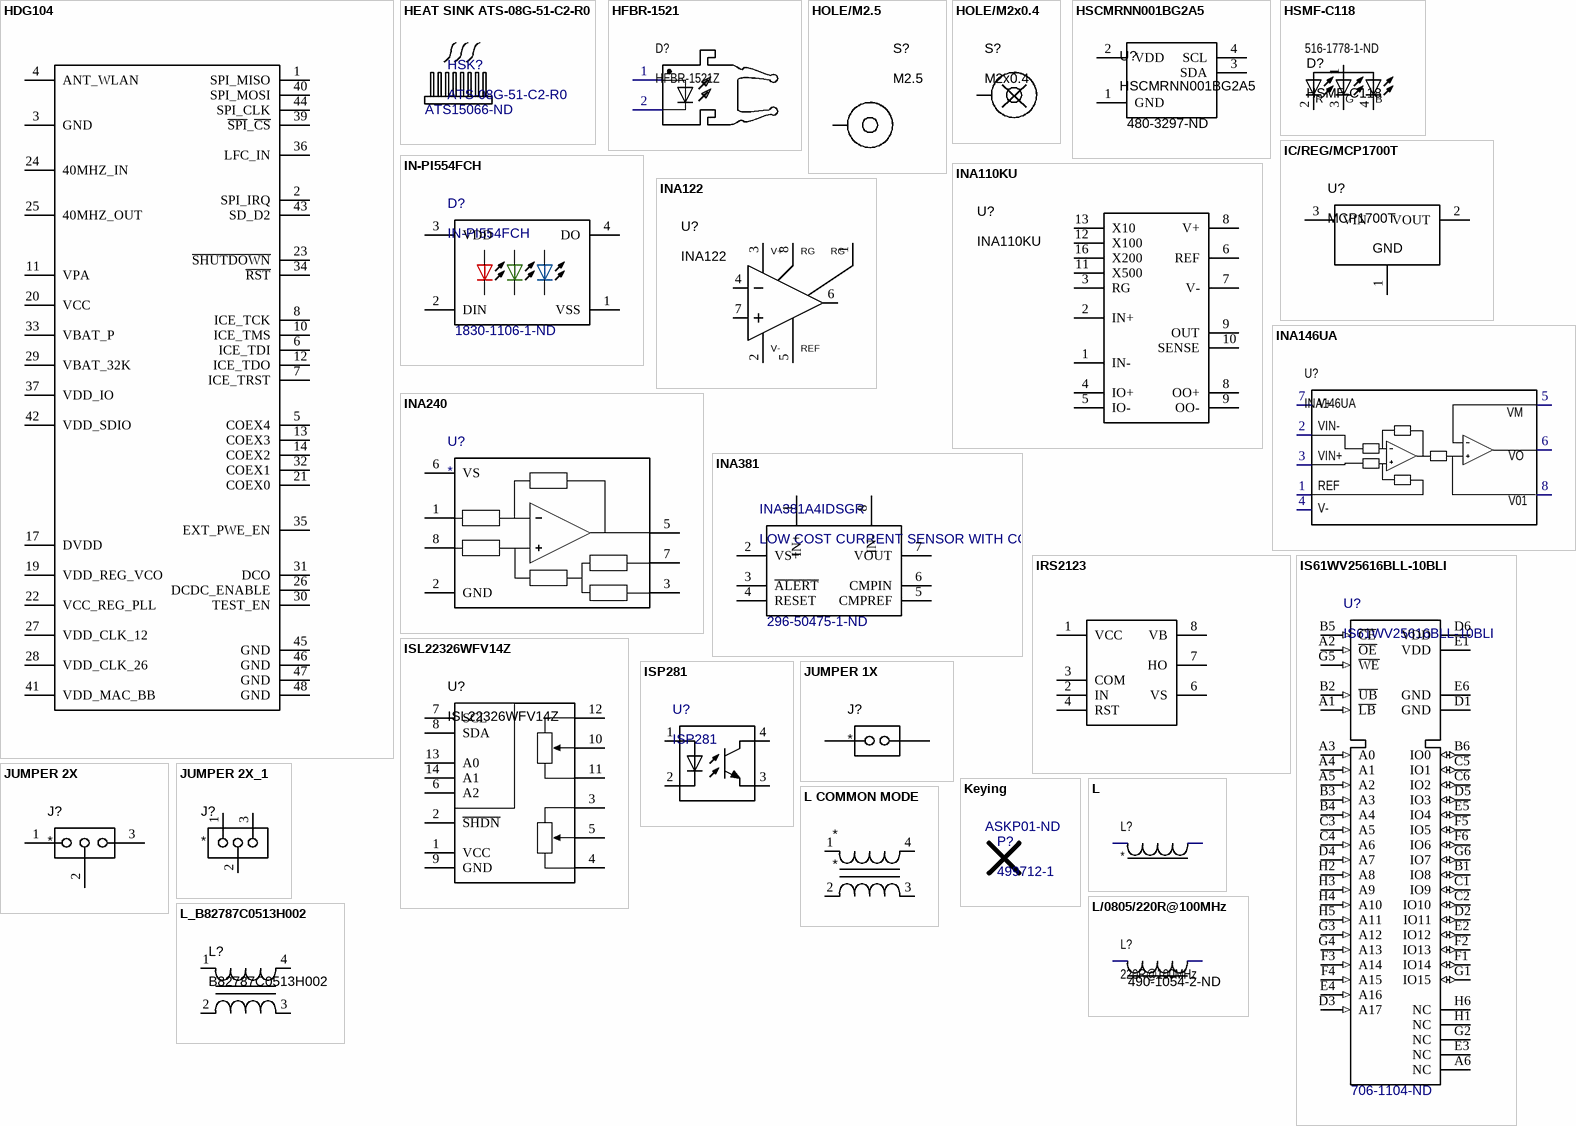
[diagram p10: symbols HDG104 to L_B82787C0513H002]

## HDG104
designator D?, comment LTST-C170CKT
Led 0805 Red; Supplier 1: Digi-Key
footprint SM/0805 (Chip Resistor, Body 2.0x1.3mm, IPC Low Density)
pins: 1 SPI_MISO, 2 SPI_IRQ, 3 GND, 4 ANT_WLAN, 5 COEX4, 6 ICE_TDI, 7 ICE_TRST, 8 ICE_TCK, 10 ICE_TMS, 11 VPA, 12 ICE_TDO, 13 COEX3, 14 COEX2, 17 DVDD, 19 VDD_REG_VCO, 20 VCC, 21 COEX0, 22 VCC_REG_PLL, 23 ~{SHUTDOWN}, 24 40MHZ_IN, 25 40MHZ_OUT, 26 DCDC_ENABLE, 27 VDD_CLK_12, 28 VDD_CLK_26, 29 VBAT_32K, 30 TEST_EN, 31 DCO, 32 COEX1, 33 VBAT_P, 34 ~{RST}, 35 EXT_PWE_EN, 36 LFC_IN, 37 VDD_IO, 39 ~{SPI}_~{CS}, 40 SPI_MOSI, 41 VDD_MAC_BB, 42 VDD_SDIO, 43 SD_D2, 44 SPI_CLK, 45 GND, 46 GND, 47 GND, 48 GND

## HEAT SINK ATS-08G-51-C2-R0
designator HSK?, comment ATS-08G-51-C2-R0  Supplier Part Number 1: ATS15066-ND  (mechanical)
HEATSINK 30X30X20MM L-TAB T766; Supplier 1: Digi-Key
footprint ATS-08G-51-C2-R0

## HFBR-1521
designator D?, comment HFBR-1521Z
Optical Transmitter; Supplier 1: Newark; Supplier 2: Digi-Key; Supplier Part Number 1: 71K0263; Supplier Part Number 2: 516-2043-ND
footprint HFBR-15X1Z
pins: 1 Anode, 2 Cathode

## HOLE/M2.5
designator S?, comment M2.5
footprint HW/HOLE/M2.5
pins: 1

## HOLE/M2x0.4
designator S?, comment M2x0.4
footprint HW/HOLE/M2.5
footprint HW/HOLE/M2x0.4 (Footprint not found)
pins: 1

## HSCMRNN001BG2A5
designator U?  Supplier Part Number 1: 480-3297-ND
SENSOR PRESSURE GAUGE 1BAR SMT; Supplier 1: Digi-Key
footprint HONEYWELL/HSCMRNN001BG2A5
pins: 1 GND, 2 VDD, 3 SDA, 4 SCL

## HSMF-C118
designator D?  Supplier Part Number 1: 516-1778-1-ND
LED CHIP RGB 3.2X2.7X1.1MM SMD; Supplier 1: Digi-Key
footprint SM/D1210
pins: 1, 2, 3, 4
text: R; G; B

## IC/REG/MCP1700T
designator U?, comment MCP1700T
IC REG LDO 3.3V 250MA SOT23-3
footprint SOT23-3 (SOT23, 3-Leads, Body 3.0x2.6mm (max), Pitch 0.95mm, IPC Low Density)
pins: 1 GND, 2 VOUT, 3 VIN

## IN-PI554FCH
designator D?  Supplier Part Number 1: 1830-1106-1-ND
ADDRESS LED DISCRETE PWM R/G/B / Addressable Lighting series 1 LED Discrete PWM Red, Green, Blue (RGB) 5.00mm L x 5.00mm W; Supplier 1: Digi-Key
pins: 1 VSS, 2 DIN, 3 VDD, 4 DO

## INA110KU
designator U?
pins: 1 IN-, 2 IN+, 3 RG, 4 IO+, 5 IO-, 6 REF, 7 V-, 8 V+, 8 OO+, 9 OO-, 9 OUT, 10 SENSE, 11 X500, 12 X100, 13 X10, 16 X200

## INA122
designator U?
IC OPAMP INSTR 120KHZ SGL 8SOIC
footprint SOIC8 (8-Pin Small Outline Integrated Circuit 1.27 mm Pitch, IPC Low Density)
pins: 1 RG, 2 VIN-, 3 VIN+, 4 V-, 5 REF, 6 VO, 7 V+, 8 RG

## INA146UA
designator U?
High-Voltage, Programmable Gain DIFFERENCE AMPLIFIER; Supplier 1: Digi-Key; Supplier Part Number 1: INA146UA-ND
footprint D008_M (8-Pin Small Outline Integrated Circuit 1.27 mm Pitch, IPC Low Density)
pins: 1 REF, 2 VIN-, 3 VIN+, 4 V-, 5 VM, 6 VO, 7 V+, 8 V01

## INA240
designator U?
Current Sense Amplifier 1 Circuit - 8-SOIC
footprint SOIC8 (8-Pin Small Outline Integrated Circuit 1.27 mm Pitch, IPC Low Density)
pins: 1 IN-, 2 GND, 3 REF2, 5 OUT, 6 VS, 7 REF1, 8 IN+

## INA381
designator INA381A4IDSGR, comment LOW COST CURRENT SENSOR WITH COM  Supplier Part Number 1: 296-50475-1-ND
Supplier 1: Digi-Key
footprint SON50P200X200X80-9N (Footprint not found)
pins: 1 IN+, 2 VS+, 3 ~{ALERT}, 4 RESET, 5 CMPREF, 6 CMPIN, 7 VOUT, 8 IN-

## IRS2123
designator U?
IC DVR HI SIDE 600V 500MA 8-SOIC; Supplier 1: Digi-Key
footprint SOIC8 (8-Pin Small Outline Integrated Circuit 1.27 mm Pitch, IPC Low Density)
pins: 1 VCC, 2 IN, 3 COM, 4 RST, 6 VS, 7 HO, 8 VB

## IS61WV25616BLL-10BLI
designator U?  Supplier Part Number 1: 706-1104-ND
SRAM - Asynchronous Memory IC 4Mb (256K x 16) Parallel 10 ns 48-TFBGA (6x8); Supplier 1: Digi-Key
footprint BGA48C75P8X6_800X600X120N
pins: A1 ~{LB} (in), A2 ~{OE} (in), A3 A0 (in), A4 A1 (in), A5 A2 (in), A6 NC, B1 IO8 (io), B2 ~{UB} (in), B3 A3 (in), B4 A4 (in), B5 ~{CE} (in), B6 IO0 (io), C1 IO9 (io), C2 IO10 (io), C3 A5 (in), C4 A6 (in), C5 IO1 (io), C6 IO2 (io), D1 GND (power), D2 IO11 (io), D3 A17 (in), D4 A7 (in), D5 IO3 (io), D6 VDD (power), E1 VDD (power), E2 IO12 (io), E3 NC, E4 A16 (in), E5 IO4 (io), E6 GND (power), F1 IO14 (io), F2 IO13 (io), F3 A14 (in), F4 A15 (in), F5 IO5 (io), F6 IO6 (io), G1 IO15 (io), G2 NC, G3 A12 (in), G4 A13 (in), G5 ~{WE} (in), G6 IO7 (io), H1 NC, H2 A8 (in), H3 A9 (in), H4 A10 (in), H5 A11 (in), H6 NC

## ISL22326WFV14Z
designator U?
Supplier 1: Digi-Key; Supplier 2: Farnell; Supplier Part Number 1: ISL22326WFV14Z-ND; Supplier Part Number 2: 1439897
footprint PW014 (Shrink Small Outline; 14 Leads; Body Width 4.4 mm; Pitch 0.65 mm)
pins: 1 VCC, 2 ~{SHDN}, 3 RH0, 4 RL0, 5 RW0, 6 A2, 7 SCL, 8 SDA, 9 GND, 10 RW1, 11 RL1, 12 RH1, 13 A0, 14 A1

## ISP281
designator U?
OPTOISOLATR 5KV TRANSISTOR 4-SMD; Value: ISP281; Supplier 1: Digi-Key; Supplier Part Number 1: 58-ISP281DCT-ND
footprint SOIC-4
pins: 1 A, 2 K, 3 E, 4 C

## JUMPER 1X
designator J?
footprint JUMPER 2x
pins: 1, 2

## JUMPER 2X
designator J?
footprint JUMPER 3x
pins: 1, 2, 3

## JUMPER 2X_1
designator J?
footprint JUMPER 3x
pins: 1, 2, 3

## Keying
designator P?, comment 499712-1  Supplier Part Number 1: ASKP01-ND  (mechanical)
CONN KEYING PLUG BLACK; Supplier 1: Digi-Key

## L
designator L?
Value: *; Isat: *
pins: 1, 2

## L COMMON MODE
designator *
pins: 1, 2, 3, 4

## L/0805/220R@100MHz
designator L?, comment 220R@100MHz  Supplier Part Number 1: 490-1054-2-ND
FERRITE CHIP 220 OHM 2000MA 0805 / BLM21PG221SN1D; Supplier 1: Digi-Key
footprint SM/0805 (Chip Resistor, Body 2.0x1.3mm, IPC Low Density)
pins: 1, 2

## L_B82787C0513H002
designator L?, comment B82787C0513H002
CMC 51UH 200MA 2LN SMD AEC-Q200
pins: 1, 2, 3, 4

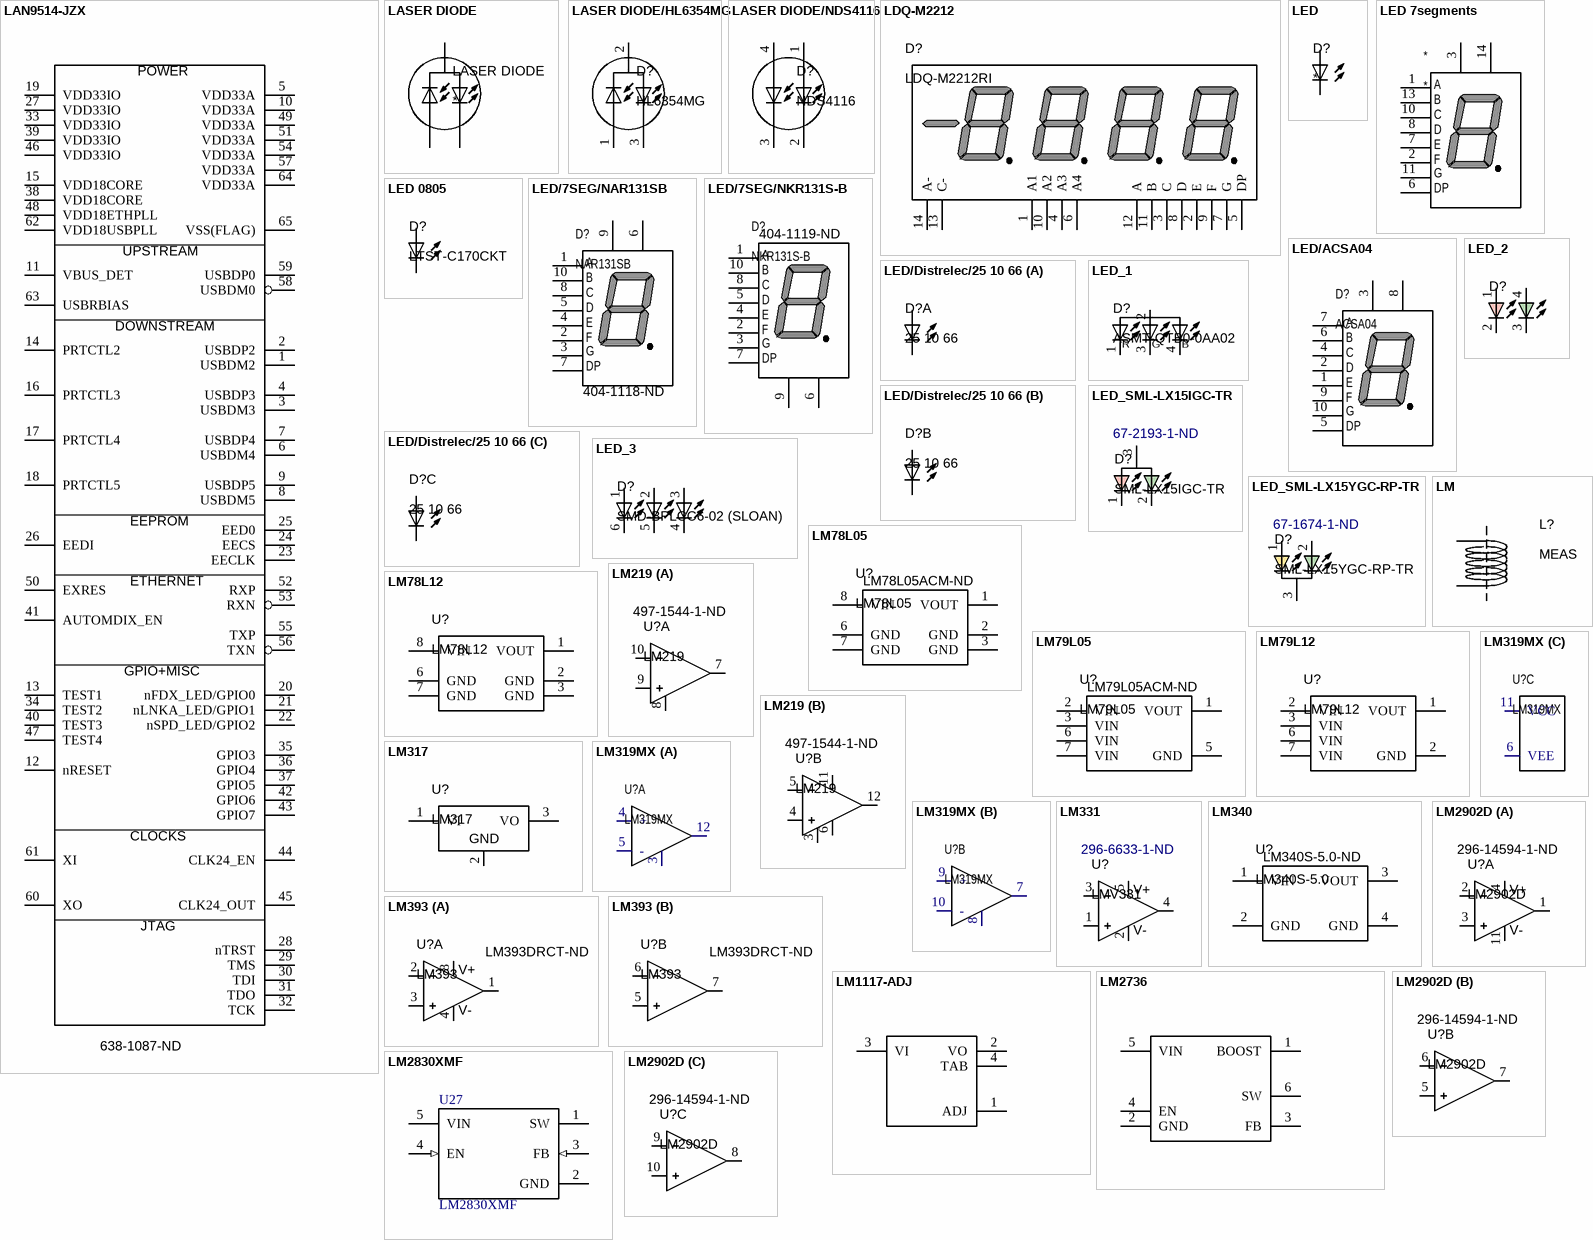
[diagram p11: symbols LAN9514-JZX to LM2902D]

## LAN9514-JZX
designator U?  Supplier Part Number 2: 638-1087-ND
Supplier 1: Digi-Key; Supplier 2: Digi-Key
footprint QFN64 9x9 (QFN, 64-Leads, Body 9.00x9.00mm, Pitch 0.50mm, Thermal Pad 7.30x7.30mm, IPC Medium Density)
pins: 1 USBDM2, 2 USBDP2, 3 USBDM3, 4 USBDP3, 5 VDD33A, 6 USBDM4, 7 USBDP4, 8 USBDM5, 9 USBDP5, 10 VDD33A, 11 VBUS_DET, 12 nRESET, 13 TEST1, 14 PRTCTL2, 15 VDD18CORE, 16 PRTCTL3, 17 PRTCTL4, 18 PRTCTL5, 19 VDD33IO, 20 nFDX_LED/GPIO0, 21 nLNKA_LED/GPIO1, 22 nSPD_LED/GPIO2, 23 EECLK, 24 EECS, 25 EED0, 26 EEDI, 27 VDD33IO, 28 nTRST, 29 TMS, 30 TDI, 31 TDO, 32 TCK, 33 VDD33IO, 34 TEST2, 35 GPIO3, 36 GPIO4, 37 GPIO5, 38 VDD18CORE, 39 VDD33IO, 40 TEST3, 41 AUTOMDIX_EN, 42 GPIO6, 43 GPIO7, 44 CLK24_EN, 45 CLK24_OUT, 46 VDD33IO, 47 TEST4, 48 VDD18ETHPLL, 49 VDD33A, 50 EXRES, 51 VDD33A, 52 RXP, 53 RXN, 54 VDD33A, 55 TXP, 56 TXN, 57 VDD33A, 58 USBDM0, 59 USBDP0, 60 XO, 61 XI, 62 VDD18USBPLL, 63 USBRBIAS, 64 VDD33A, 65 VSS(FLAG)
text: POWER; UPSTREAM; DOWNSTREAM; EEPROM; ETHERNET; GPIO+MISC; CLOCKS; JTAG

## LASER DIODE
designator LASER DIODE
pins: 1, 2, 3

## LASER DIODE/HL6354MG
designator D?, comment HL6354MG
pins: 1, 2, 3

## LASER DIODE/NDS4116
designator D?, comment NDS4116
Nichia Diode 488nm
pins: 1, 2, 3, 4

## LDQ-M2212
designator D?, comment LDQ-M2212RI
Value: LDQ-M2212RI
pins: 1 A1 "Cathode", 2 E "Cathode", 3 C "Cathode", 4 A3 "Cathode", 5 DP "Cathode", 6 A4 "Cathode", 7 G "Cathode", 8 D "Cathode", 9 F "Cathode", 10 A2 "Cathode", 11 B "Cathode", 12 A "Cathode", 13 C- "Cathode", 14 A- "Cathode"

## LED
designator D?
pins: 1, 2

## LED 7segments
designator *
pins: 1 a "Cathode", 2 f "Cathode", 3 A "Anode", 6 DP "Cathode", 7 e "Cathode", 8 d "Cathode", 10 c "Cathode", 11 g "Cathode", 13 b "Cathode", 14 A "Anode"
text: B; C; D; E; F; G

## LED 0805
designator D?, comment LTST-C170CKT
Led 0805 Red; Supplier 1: Digi-Key
footprint SM/0805 (Chip Resistor, Body 2.0x1.3mm, IPC Low Density)
pins: 1, 2

## LED/7SEG/NAR131SB
designator D?, comment NAR131SB  Supplier Part Number 1: 404-1118-ND
LED 7SEG DISP .30" RED CA BLACK; Supplier 1: Digi-Key
footprint 7-SEG/NKR131SB
pins: 1 a "Cathode", 2 f "Cathode", 3 g "Cathode", 4 e "Cathode", 5 d "Cathode", 6 A "Anode", 7 DP "Cathode", 8 c "Cathode", 9 A "Anode", 10 b "Cathode"
text: B; C; D; E; F; G

## LED/7SEG/NKR131S-B
designator D?, comment NKR131S-B  Supplier Part Number 1: 404-1119-ND
LED 7SEG DISP .30" RED CA BLACK; Supplier 1: Digi-Key
footprint 7-SEG/NKR131SB
pins: 1 a "Cathode", 2 f "Cathode", 3 g "Cathode", 4 e "Cathode", 5 d "Cathode", 6 A "Anode", 7 DP "Cathode", 8 c "Cathode", 9 A "Anode", 10 b "Cathode"
text: B; C; D; E; F; G

## LED/ACSA04
designator D?, comment ACSA04
7 Segments SMT
footprint LED/ACSA04
pins: 1 e "Cathode", 2 d "Cathode", 3 A "Anode", 4 c "Cathode", 5 DP "Cathode", 6 b "Cathode", 7 a "Cathode", 8 A "Anode", 9 f "Cathode", 10 g "Cathode"
text: B; C; D; E; F; G

## LED/Distrelec/25 10 66
designator D?, comment 25 10 66
footprint DISTRELEC/25-10-66/LEDS
part A pins: 1, 2
part B pins: 3, 4
part C pins: 5, 6

## LED_1
designator D?, comment ASMT-QTB0-0AA02
pins: 1, 2, 3, 4
text: R; G; B

## LED_2
designator D?
APHBM2012SURKCGKC
footprint SM/D/LED/APHBM2012SURKCGKC
pins: 1 A, 2 K, 3, 4

## LED_3
designator D?, comment SMD-BPLCC6-02 (SLOAN)
footprint PLCC6
pins: 1, 2, 3, 4, 5, 6

## LED_SML-LX15IGC-TR
designator D?, comment SML-LX15IGC-TR  Supplier Part Number 1: 67-2193-1-ND
LED GREEN/RED CLEAR SOT23 SMD; Supplier 1: Digi-Key
footprint SOT23-3 (SOT23, 3-Leads, Body 3.0x2.6mm (max), Pitch 0.95mm, IPC Low Density)
pins: 1 K RED, 2 K GREEN, 3 ANODE

## LED_SML-LX15YGC-RP-TR
designator D?, comment SML-LX15YGC-RP-TR  Supplier Part Number 1: 67-1674-1-ND
LED GREEN/YELLOW CLEAR SOT23 SMD; Supplier 1: Digi-Key
footprint SOT23-3 (SOT23, 3-Leads, Body 3.0x2.6mm (max), Pitch 0.95mm, IPC Low Density)
pins: 1 K RED, 2 K GREEN, 3 ANODE

## LM
designator L?, comment MEAS
pins: 1, 2

## LM78L05
designator U?  Supplier Part Number 1: LM78L05ACM-ND
Supplier 1: Digi-Key
footprint SOIC8 (8-Pin Small Outline Integrated Circuit 1.27 mm Pitch, IPC Low Density)
pins: 1 VOUT, 2 GND, 3 GND, 6 GND, 7 GND, 8 VIN

## LM78L12
designator U?
pins: 1 VOUT, 2 GND, 3 GND, 6 GND, 7 GND, 8 VIN

## LM79L05
designator U?  Supplier Part Number 1: LM79L05ACM-ND
Supplier 1: Digi-Key
footprint SOIC8 (8-Pin Small Outline Integrated Circuit 1.27 mm Pitch, IPC Low Density)
pins: 1 VOUT, 2 VIN, 3 VIN, 5 GND, 6 VIN, 7 VIN

## LM79L12
designator U?
pins: 1 VOUT, 2 VIN, 2 GND, 3 VIN, 6 VIN, 7 VIN

## LM219
designator U?  Supplier Part Number 1: 497-1544-1-ND
High Speed Dual Comparator; Supplier 1: Digi-Key
footprint SOIC14 (14-Pin Small Outline Integrated Circuit 1.27 mm Pitch, IPC Low Density)
part A pins: 7 OUT, 8 GND, 9 IN+, 10 IN-
part B pins: 3 GND1, 4 IN+, 5 IN-, 6 V-, 11 V+, 12 OUT

## LM317
designator U?
pins: 1 VI, 2 GND, 3 VO

## LM319MX
designator U?
Dual Comparator; Supplier 1: Digi-Key; Supplier Part Number 1: LM319M-ND
footprint D014_M (14-Pin Small Outline Integrated Circuit 1.27 mm Pitch, IPC Low Density)
part A pins: 3 GND1, 4 +, 5 -, 12
part B pins: 7, 8 GND2, 9 +, 10 -
part C pins: 6 VEE, 11 VCC

## LM331
designator U?, comment LMV331  Supplier Part Number 1: 296-6633-1-ND
Comparator General Purpose CMOS, Open-Collector, TTL SOT-23-5; Supplier 1: Digi-Key
footprint DIP8 (Footprint not found)
footprint SOT23-5 (SOT23, 5-Leads, Body 3.0x2.6mm (max), Pitch 0.95mm, IPC Low Density)
pins: 1 IN+, 2 V-, 3 IN-, 4 OUT, 5 V+
1 alternate drawing of the same symbol

## LM340
designator U?, comment LM340S-5.0  Supplier Part Number 1: LM340S-5.0-ND
Supplier 1: Digi-Key
footprint D2PAK (D2-PAK, 3-Pads, Body 9.6x9.6mm (max), IPC Medium Density)
pins: 1 VIN, 2 GND, 3 VOUT, 4 GND

## LM393
designator U?  Supplier Part Number 1: LM393DRCT-ND
Low power dual voltage comparator; Supplier 1: Digi-Key
footprint SOIC8 (8-Pin Small Outline Integrated Circuit 1.27 mm Pitch, IPC Low Density)
part A pins: 1 OUT, 2 IN-, 3 IN+, 4 V-, 8 V+
part B pins: 5 IN+, 6 IN-, 7 OUT

## LM1117-ADJ
designator D?, comment LTST-C170CKT
Led 0805 Red; Supplier 1: Digi-Key
footprint SM/0805 (Chip Resistor, Body 2.0x1.3mm, IPC Low Density)
pins: 1 ADJ, 2 VO, 3 VI, 4 TAB

## LM2736
designator D?, comment LTST-C170CKT
Led 0805 Red; Supplier 1: Digi-Key
footprint SM/0805 (Chip Resistor, Body 2.0x1.3mm, IPC Low Density)
pins: 1 BOOST, 2 GND, 3 FB, 4 EN, 5 VIN, 6 SW

## LM2830XMF
designator U27
High Frequency 1.0A Load - Step-Down DC-DC  Regulator; Manufacturer: National Semiconductor; CompType: Switcher; PackageTopMarking: SKTB*XTT; PowerWise: N; Published: 4-Dec-2008; DatasheetVersion: May-2008; PackageVersion: revD, Aug-2008; PackageReference: MF05A; Publisher: Altium Limited; PackageDescription: Molded SOT-23, .115 x .063 x .040 in Body, 5 Lead, .0375 in Pitch; PartNumber: LM2830XMF; RoHS: O; PinCount: 5; DigiKeyPartNumber: LM2830XMFCT-ND; ComponentLink1Description: LM2830 Datasheet; ComponentLink1URL: http://www.national.com/ds/LM/LM2830.pdf; ComponentLink2Description: LM2830 Web Page; ComponentLink2URL: http://www.national.com/pf/LM/LM2830.html; ComponentLink3Description: MF05A Package Page; ComponentLink3URL: http://www.national.com/packaging/folders/mf05a.html
footprint MF05A_N (SOT23, 5-Leads, Body 2.9x1.6mm, Pitch 0.95mm, Lead Span 2.8mm, IPC Medium Density)
footprint MF05A_L (SOT23, 5-Leads, Body 2.9x1.6mm, Pitch 0.95mm, Lead Span 2.8mm, IPC High Density)
footprint MF05A_M (SOT23, 5-Leads, Body 2.9x1.6mm, Pitch 0.95mm, Lead Span 2.8mm, IPC Low Density)
pins: 1 SW (power), 2 GND (power), 3 FB (in), 4 EN (in), 5 VIN (power)

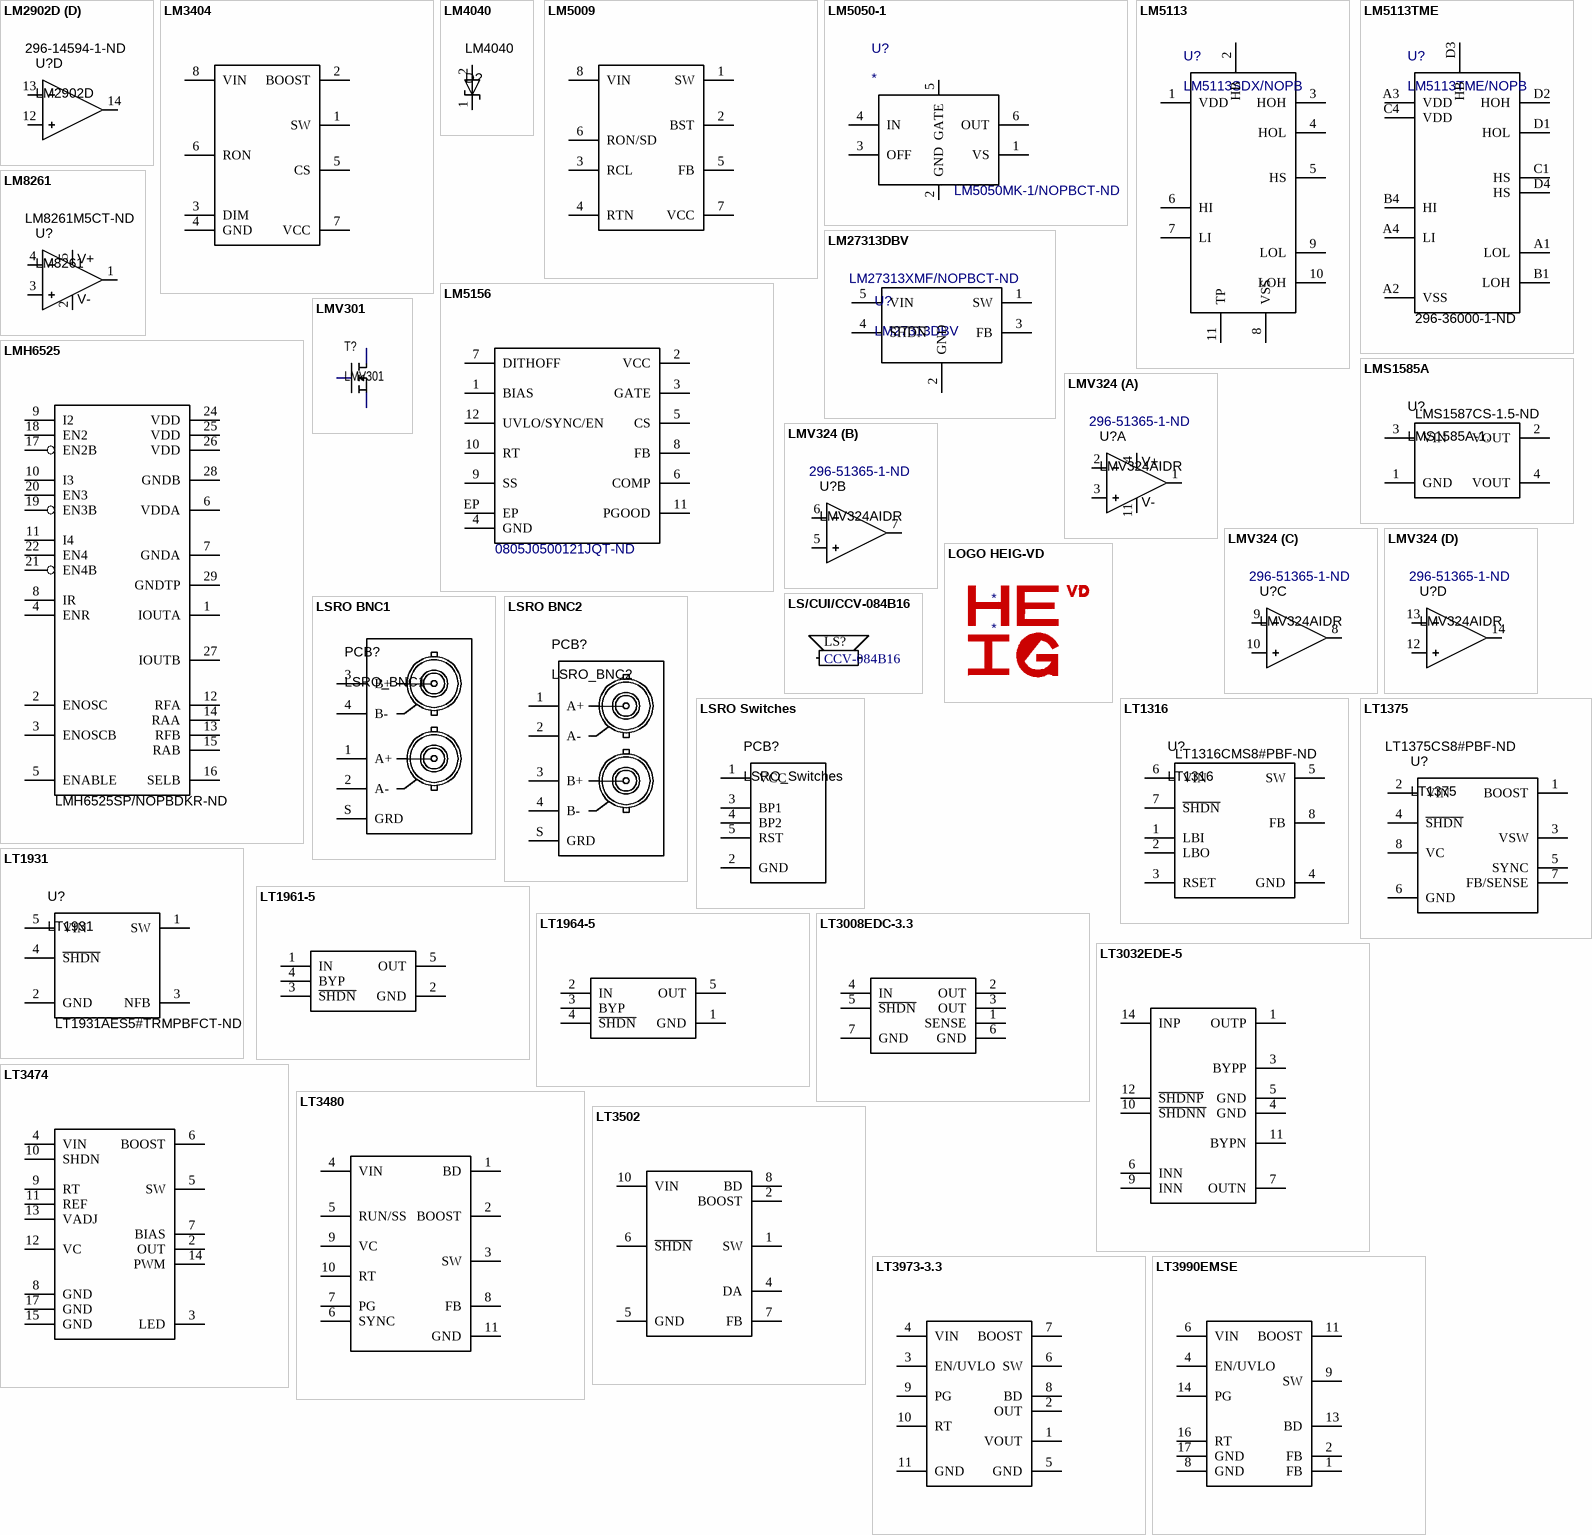
[diagram p12: symbols LM2902D to LT3990EMSE]

## LM2902D
designator U?  Supplier Part Number 1: 296-14594-1-ND
Qiadriple operational amplifiers; Supplier 1: Digi-Key
footprint SOIC14 (14-Pin Small Outline Integrated Circuit 1.27 mm Pitch, IPC Low Density)
part A pins: 1 OUT, 2 IN-, 3 IN+, 4 VCC, 11 GND
part B pins: 5 IN+, 6 IN-, 7 OUT
part C pins: 8 OUT, 9 IN-, 10 IN+
part D pins: 12 IN+, 13 IN-, 14 OUT
part A text: V+; V-

## LM3404
designator U?
LED DRV; Supplier 1: Digi-Key
footprint SOIC8 (Footprint not found)
pins: 1 SW, 2 BOOST, 3 DIM, 4 GND, 5 CS, 6 RON, 7 VCC, 8 VIN

## LM4040
designator LM4040, comment D?
IC VREF SHUNT PREC 2.5V SOT-23-3
footprint SOT23-3 (SOT23, 3-Leads, Body 3.0x2.6mm (max), Pitch 0.95mm, IPC Low Density)
pins: 1, 2

## LM5009
designator U?  Supplier Part Number 2: LM5009AMMDKR-ND
IC REG BUCK ADJ 0.15A 8MSOP; Supplier 1: Digi-Key; Supplier 2: Digi-Key
footprint MSOP8 (Footprint not found)
pins: 1 SW, 2 BST, 3 RCL, 4 RTN, 5 FB, 6 RON/SD, 7 VCC, 8 VIN

## LM5050-1
designator U?  Supplier Part Number 1: LM5050MK-1/NOPBCT-ND
Supplier 1: Digi-Key
footprint SOT23-6 (SOT23, 6-Leads, Body 3.1x3.2mm (max), Pitch 0.95mm, IPC Medium Density)
pins: 1 VS, 2 GND, 3 OFF, 4 IN, 5 GATE, 6 OUT

## LM5113
designator U?, comment LM5113SDX/NOPB
Half-Bridge Gate Driver IC Non-Inverting 10-WSON (4x4)
pins: 1 VDD, 2 HB, 3 HOH, 4 HOL, 5 HS, 6 HI, 7 LI, 8 VSS, 9 LOL, 10 LOH, 11 TP

## LM5113TME
designator U?, comment LM5113TME/NOPB  Supplier Part Number 1: 296-36000-1-ND
Half-Bridge Gate Driver IC Non-Inverting 12-DSBGA; Supplier 1: Digi-Key
footprint BGA12N40P4X4_172X187X67N
pins: A1 LOL, A2 VSS, A3 VDD, A4 LI, B1 LOH, B4 HI, C1 HS, C4 VDD, D1 HOL, D2 HOH, D3 HB, D4 HS

## LM5156
designator U?, comment LM51561HQPWPRQ1  Supplier Part Number 1: 0805J0500121JQT-ND
Supplier 1: Digi-Key
footprint SOIC8 (8-Pin Small Outline Integrated Circuit 1.27 mm Pitch, IPC Low Density)
pins: 1 BIAS, 2 VCC, 3 GATE, 4 GND, 5 CS, 6 COMP, 7 DITHOFF, 8 FB, 9 SS, 10 RT, 11 PGOOD, 12 UVLO/SYNC/EN, EP

## LM8261
designator U?  Supplier Part Number 1: LM8261M5CT-ND
IC OP AMP HI OUT R-R SOT23-5; Supplier 1: Digi-Key
footprint TI/DBV005 (SOT-23/SC-74A; 5 Leads; Body 3 x 3 mm, inc. leads (LxW max))
pins: 1 OUT, 2 V-, 3 IN+, 4 IN-, 5 V+

## LM27313DBV
designator U?  Supplier Part Number 1: LM27313XMF/NOPBCT-ND
Boost Switching Regulator IC Positive Adjustable 5V 1 Output 800mA (Switch) SC-74A, SOT-753; Supplier 1: Digi-Key
footprint SOT23-6 (SOT23, 6-Leads, Body 3.1x3.2mm (max), Pitch 0.95mm, IPC Medium Density)
pins: 1 SW, 2 GND (power), 3 FB, 4 ~{SHDN}, 5 VIN (power)

## LMH6525
designator U?  Supplier Part Number 2: LMH6525SP/NOPBDKR-ND
IC LASER DRIVER 4CHAN 5.5V 28LLP; Supplier 1: Digi-Key; Supplier 2: Digi-Key
footprint QFN28T
pins: 1 IOUTA, 2 ENOSC, 3 ENOSCB, 4 ENR, 5 ENABLE, 6 VDDA, 7 GNDA, 8 IR, 9 I2, 10 I3, 11 I4, 12 RFA, 13 RFB, 14 RAA, 15 RAB, 16 SELB, 17 EN2B, 18 EN2, 19 EN3B, 20 EN3, 21 EN4B, 22 EN4, 24 VDD, 25 VDD, 26 VDD, 27 IOUTB, 28 GNDB, 29 GNDTP

## LMS1585A
designator U?, comment LMS1585A-1.  Supplier Part Number 1: LMS1587CS-1.5-ND
Supplier 1: Digi-Key
footprint D2PAK (D2-PAK, 3-Pads, Body 9.6x9.6mm (max), IPC Medium Density)
pins: 1 GND, 2 VOUT, 3 VIN, 4 VOUT

## LMV301
designator T?
pins: 14 VCC, 15 VCC, 16 VCC

## LMV324
designator U?, comment LMV324AIDR  Supplier Part Number 1: 296-51365-1-ND
Qiadriple operational amplifiers; Supplier 1: Digi-Key
footprint SOIC14 (14-Pin Small Outline Integrated Circuit 1.27 mm Pitch, IPC Low Density)
part A pins: 1 OUT, 2 IN-, 3 IN+, 4 VCC, 11 GND
part B pins: 5 IN+, 6 IN-, 7 OUT
part C pins: 8 OUT, 9 IN-, 10 IN+
part D pins: 12 IN+, 13 IN-, 14 OUT
part A text: V+; V-

## LOGO HEIG-VD
designator *

## LS/CUI/CCV-084B16
designator LS?, comment CCV-084B16
BUZZER AUDIO MAGNETIC 3.6VDC SMD
footprint CCV-084B16 (BUZZER AUDIO MAGNETIC 3.6VDC SMD)
pins: 1, 2

## LSRO BNC1
designator PCB?, comment LSRO_BNC1
footprint LSRO/BNC1
pins: 1 A+, 2 A-, 3 B+, 4 B-, S GRD

## LSRO BNC2
designator PCB?, comment LSRO_BNC2
footprint LSRO/BNC2
pins: 1 A+, 2 A-, 3 B+, 4 B-, S GRD

## LSRO Switches
designator PCB?, comment LSRO_Switches
footprint lsro-switches
pins: 1 VCC, 2 GND, 3 BP1, 4 BP2, 5 RST

## LT1316
designator U?  Supplier Part Number 1: LT1316CMS8#PBF-ND
Supplier 1: Digi-Key
pins: 1 LBI, 2 LBO, 3 RSET, 4 GND, 5 SW, 6 VIN, 7 ~{SHDN}, 8 FB

## LT1375
designator U?  Supplier Part Number 1: LT1375CS8#PBF-ND
Supplier 1: Digi-Key
footprint SOIC8 (8-Pin Small Outline Integrated Circuit 1.27 mm Pitch, IPC Low Density)
pins: 1 BOOST, 2 VIN, 3 VSW, 4 ~{SHDN}, 5 SYNC, 6 GND, 7 FB/SENSE, 8 VC

## LT1931
designator U?  Supplier Part Number 1: LT1931AES5#TRMPBFCT-ND
Supplier 1: Digi-Key
pins: 1 SW, 2 GND, 3 NFB, 4 ~{SHDN}, 5 VIN

## LT1961-5
designator U?
IC REG LDO 5V .2A TSOT23-5; Supplier 1: Digi-Key
footprint SOT23-5 (SOT23, 5-Leads, Body 3.0x2.6mm (max), Pitch 0.95mm, IPC Low Density)
pins: 1 IN, 2 GND, 3 ~{SHDN}, 4 BYP, 5 OUT

## LT1964-5
designator U?
IC REG LDO -5V .2A TSOT23-5; Supplier 1: Digi-Key
footprint SOT23-5 (SOT23, 5-Leads, Body 3.0x2.6mm (max), Pitch 0.95mm, IPC Low Density)
pins: 1 GND, 2 IN, 3 BYP, 4 ~{SHDN}, 5 OUT

## LT3008EDC-3.3
designator U?
IC REG LDO 3.3V 20MA 6DFN; Supplier 1: Digi-Key
footprint DFN6/2x2 (Footprint not found)
pins: 1 SENSE, 2 OUT, 3 OUT, 4 IN, 5 ~{SHDN}, 6 GND, 7 GND

## LT3032EDE-5
designator U?  Supplier Part Number 1: LT3032EDE-5#PBF-ND
IC REG LDO +/-5V .15A DL 14DFN; Supplier 1: Digi-Key
pins: 1 OUTP, 3 BYPP, 4 GND, 5 GND, 6 INN, 7 OUTN, 9 INN, 10 ~{SHDNN}, 11 BYPN, 12 ~{SHDNP}, 14 INP

## LT3474
designator U?, comment LE3474
LED DRIVER BUCK; Supplier 1: Digi-Key
footprint TSSOP16 (Shrink Small Outline; 16 Leads; Body Width 4.4 mm; Pitch 0.65 mm)
pins: 2 OUT, 3 LED, 4 VIN, 5 SW, 6 BOOST, 7 BIAS, 8 GND, 9 RT, 10 SHDN, 11 REF, 12 VC, 13 VADJ, 14 PWM, 15 GND, 17 GND

## LT3480
designator U?  Supplier Part Number 2: LT3480EMSE#PBF-ND
BUCK; Supplier 1: Digi-Key; Supplier 2: Digi-Key
pins: 1 BD, 2 BOOST, 3 SW, 4 VIN, 5 RUN/SS, 6 SYNC, 7 PG, 8 FB, 9 VC, 10 RT, 11 GND

## LT3502
designator U?
Supplier 1: Digi-Key
footprint MSOP10 (TSSOP, 10-Leads, Body 3.00x3.00mm, Pitch 0.50mm, Thermal Pad 1.68.2x1.68.2mm, IPC Medium Density)
pins: 1 SW, 2 BOOST, 4 DA, 5 GND, 6 ~{SHDN}, 7 FB, 8 BD, 10 VIN

## LT3973-3.3
designator U?
Supplier 1: Digi-Key
pins: 1 VOUT, 2 OUT, 3 EN/UVLO, 4 VIN, 5 GND, 6 SW, 7 BOOST, 8 BD, 9 PG, 10 RT, 11 GND

## LT3990EMSE
designator U?  Supplier Part Number 2: LT3990EMSE#PBF-ND
BUCK; Supplier 1: Digi-Key; Supplier 2: Digi-Key
footprint MSOP16 (Footprint not found)
pins: 1 FB, 2 FB, 4 EN/UVLO, 6 VIN, 8 GND, 9 SW, 11 BOOST, 13 BD, 14 PG, 16 RT, 17 GND

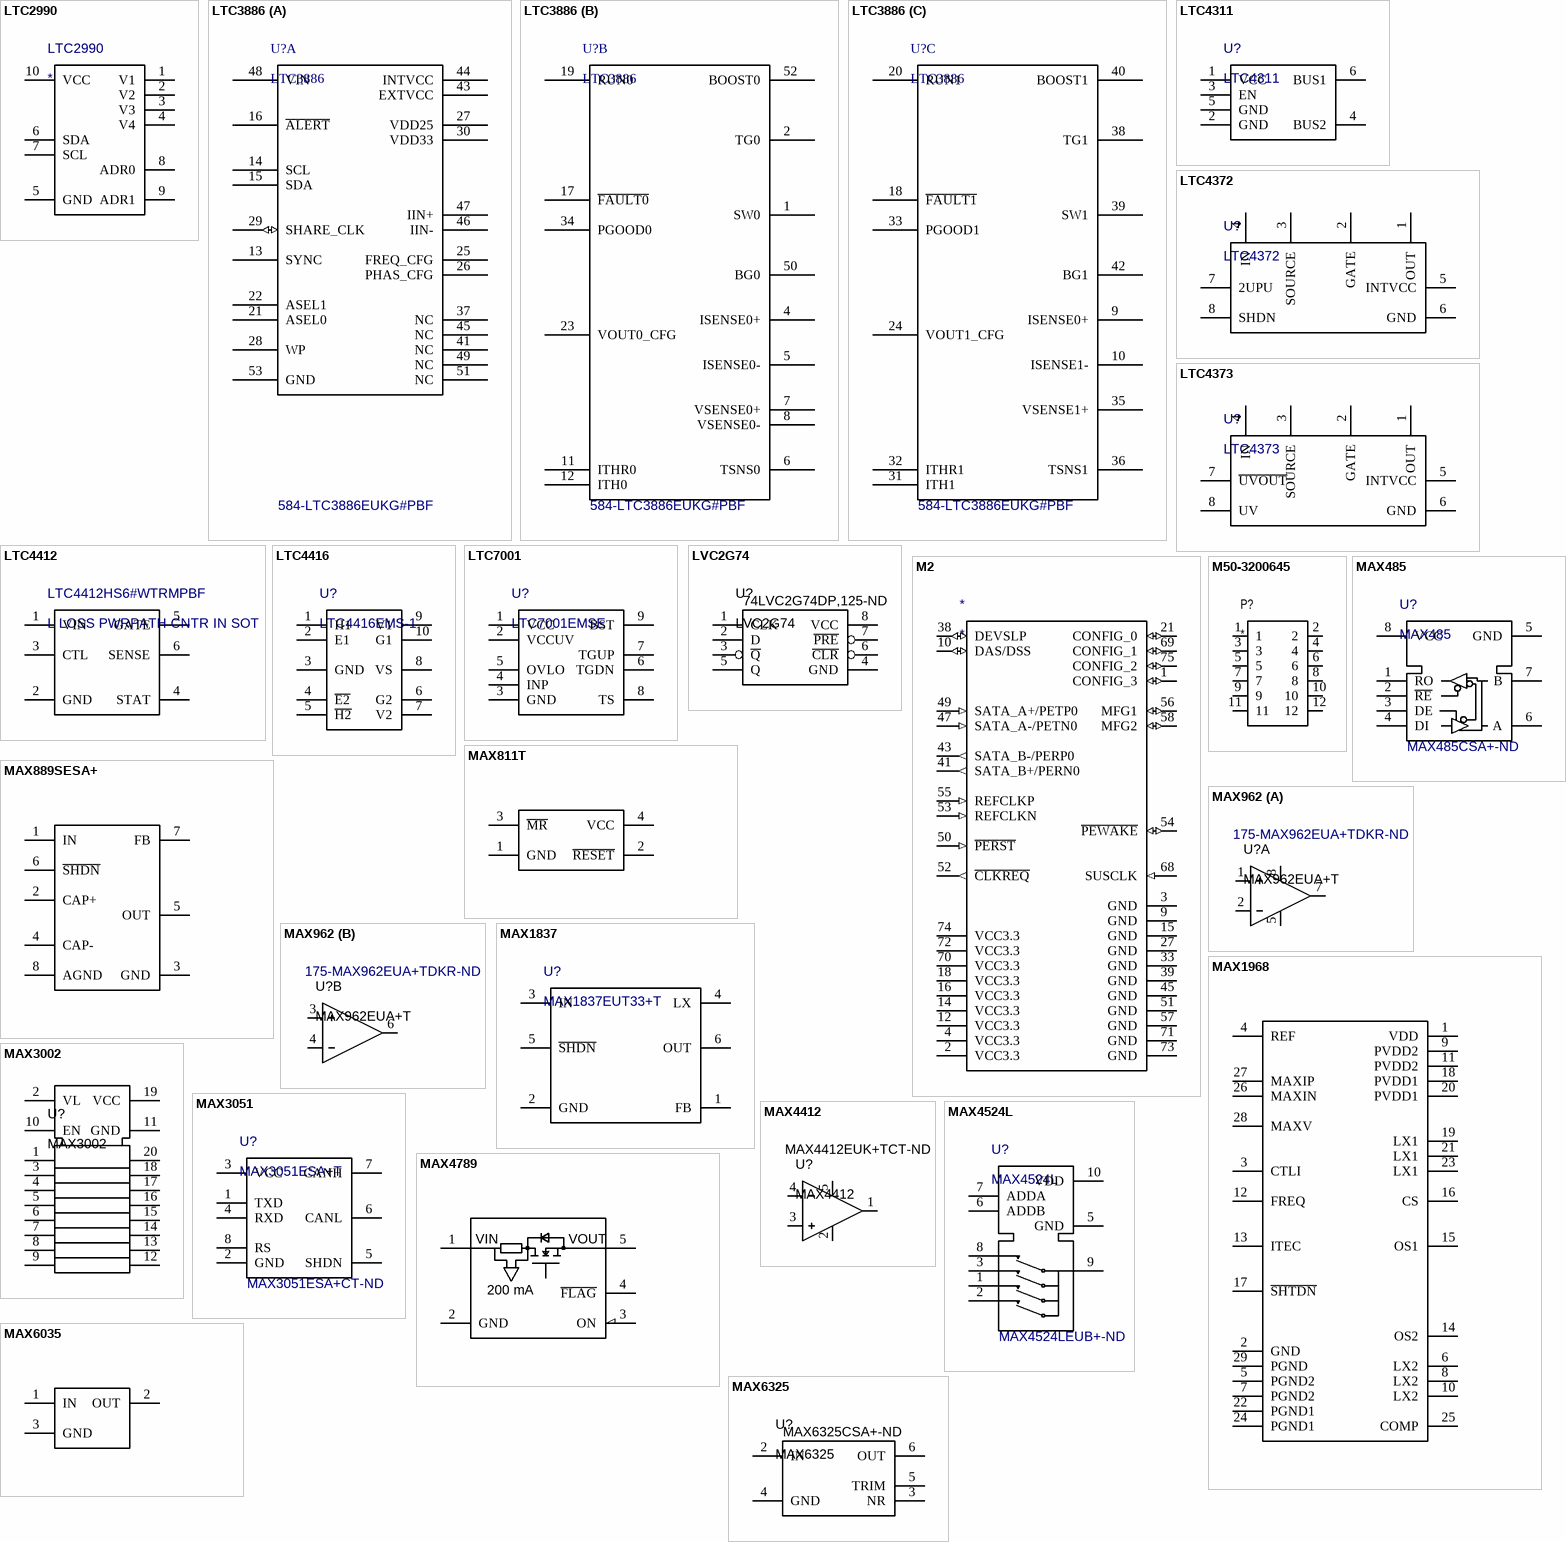
[diagram p13: symbols LTC2990 to MAX6325]

## LTC2990
designator LTC2990
pins: 1 V1, 2 V2, 3 V3, 4 V4, 5 GND, 6 SDA, 7 SCL, 8 ADR0, 9 ADR1, 10 VCC